# Altium integrated library TI Digital Signal Processor 32-Bit.IntLib: 121 symbols (part 9 of 13)
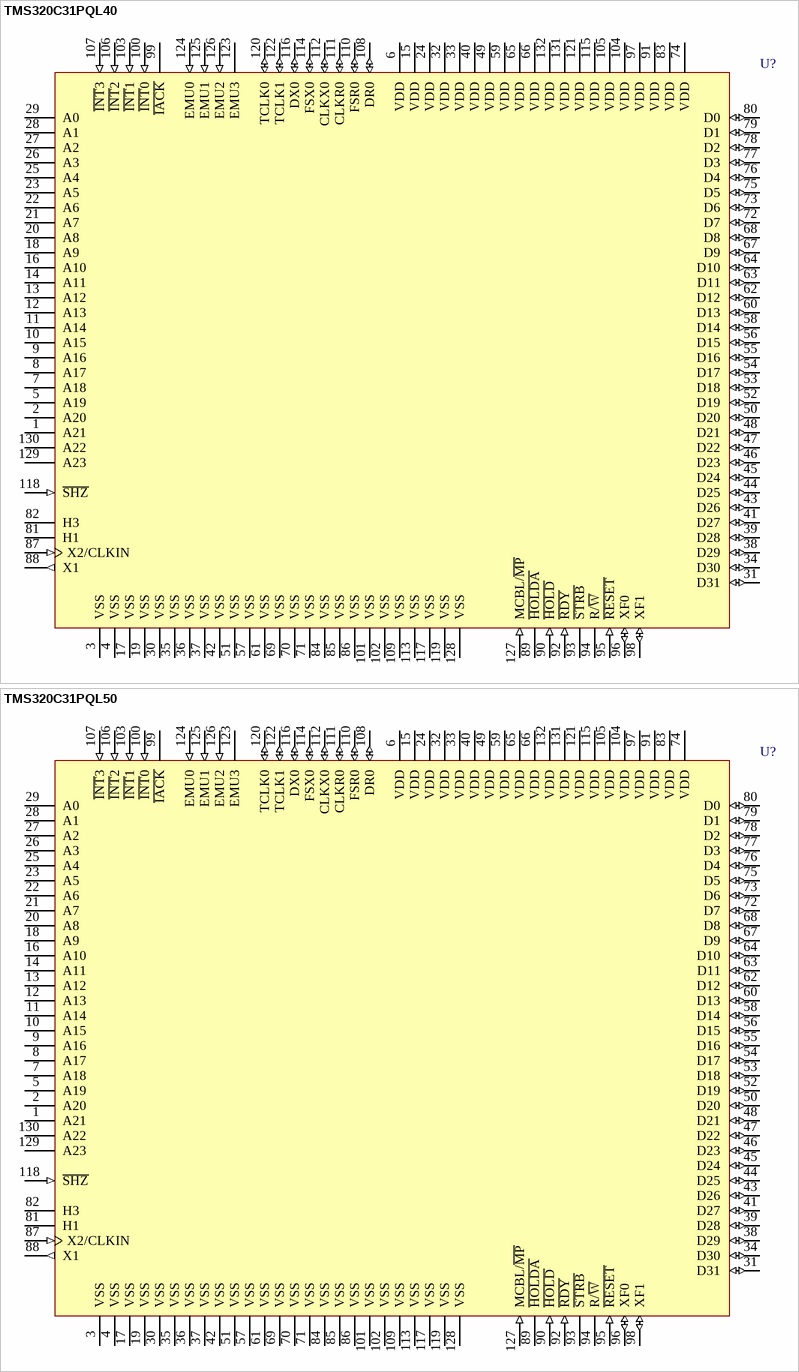
[diagram p138: symbols TMS320C31PQL40 to TMS320C31PQL50]

## TMS320C31PQL40
designator U?
Floating DSP; Published: 25-Jan-2001; LatestRevisionDate: 17-Jul-2002; LatestRevisionNote: Re-released for DXP Platform.; DatasheetVersion: Jan-1999; PackageVersion: Nov-1995; PackageReference: PQ132; Publisher: Altium Limited; PackageDescription: PQFP; 132 Leads; Body 24 x 24 mm; Pitch 0.635 mm; Code_JEDEC: MO-069; ComponentLink1Description: Manufacturer Link; ComponentLink1URL: http://www.ti.com/; ComponentLink2Description: Datasheet; ComponentLink2URL: http://www-s.ti.com/sc/ds/tms320lc31.pdf
footprint PQ132 (PQFP; 132 Leads; Body 24 x 24 mm; Pitch 0.635 mm)
pins: 1 A21 (hiz), 2 A20 (hiz), 3 VSS (power), 4 VSS (power), 5 A19 (hiz), 6 VDD (power), 7 A18 (hiz), 8 A17 (hiz), 9 A16 (hiz), 10 A15 (hiz), 11 A14 (hiz), 12 A13 (hiz), 13 A12 (hiz), 14 A11 (hiz), 15 VDD (power), 16 A10 (hiz), 17 VSS (power), 18 A9 (hiz), 19 VSS (power), 20 A8 (hiz), 21 A7 (hiz), 22 A6 (hiz), 23 A5 (hiz), 24 VDD (power), 25 A4 (hiz), 26 A3 (hiz), 27 A2 (hiz), 28 A1 (hiz), 29 A0 (hiz), 30 VSS (power), 31 D31 (io), 32 VDD (power), 33 VDD (power), 34 D30 (io), 35 VSS (power), 36 VSS (power), 37 VSS (power), 38 D29 (io), 39 D28 (io), 40 VDD (power), 41 D27 (io), 42 VSS (power), 43 D26 (io), 44 D25 (io), 45 D24 (io), 46 D23 (io), 47 D22 (io), 48 D21 (io), 49 VDD (power), 50 D20 (io), 51 VSS (power), 52 D19 (io), 53 D18 (io), 54 D17 (io), 55 D16 (io), 56 D15 (io), 57 VSS (power), 58 D14 (io), 59 VDD (power), 60 D13 (io), 61 VSS (power), 62 D12 (io), 63 D11 (io), 64 D10 (io), 65 VDD (power), 66 VDD (power), 67 D9 (io), 68 D8 (io), 69 VSS (power), 70 VSS (power), 71 VSS (power), 72 D7 (io), 73 D6 (io), 74 VDD (power), 75 D5 (io), 76 D4 (io), 77 D3 (io), 78 D2 (io), 79 D1 (io), 80 D0 (io), 81 H1 (hiz), 82 H3 (hiz), 83 VDD (power), 84 VSS (power), 85 VSS (power), 86 VSS (power), 87 X2/CLKIN (in), 88 X1 (out), 89 ~{HOLDA} (hiz), 90 ~{HOLD} (in), 91 VDD (power), 92 ~{RDY} (in), 93 ~{STRB} (hiz), 94 R/~{W} (hiz), 95 ~{RESET} (in), 96 XF0 (io), 97 VDD (power), 98 XF1 (io), 99 ~{IACK} (hiz), 100 ~{INT}0 (in), 101 VSS (power), 102 VSS (power), 103 ~{INT}1 (in), 104 VDD (power), 105 VDD (power), 106 ~{INT}2 (in), 107 ~{INT}3 (in), 108 DR0 (io), 109 VSS (power), 110 FSR0 (io), 111 CLKR0 (io), 112 CLKX0 (io), 113 VSS (power), 114 FSX0 (io), 115 VDD (power), 116 DX0 (io), 117 VSS (power), 118 ~{SHZ} (in), 119 VSS (power), 120 TCLK0 (io), 121 VDD (power), 122 TCLK1 (io), 123 EMU3 (hiz), 124 EMU0 (in), 125 EMU1 (in), 126 EMU2 (in), 127 MCBL/~{MP} (in), 128 VSS (power), 129 A23 (hiz), 130 A22 (hiz), 131 VDD (power), 132 VDD (power)

## TMS320C31PQL50
designator U?
Floating DSP; Published: 25-Jan-2001; LatestRevisionDate: 17-Jul-2002; LatestRevisionNote: Re-released for DXP Platform.; DatasheetVersion: Jan-1999; PackageVersion: Nov-1995; PackageReference: PQ132; Publisher: Altium Limited; PackageDescription: PQFP; 132 Leads; Body 24 x 24 mm; Pitch 0.635 mm; Code_JEDEC: MO-069; ComponentLink1Description: Manufacturer Link; ComponentLink1URL: http://www.ti.com/; ComponentLink2Description: Datasheet; ComponentLink2URL: http://www-s.ti.com/sc/ds/tms320lc31.pdf
footprint PQ132 (PQFP; 132 Leads; Body 24 x 24 mm; Pitch 0.635 mm)
pins: 1 A21 (hiz), 2 A20 (hiz), 3 VSS (power), 4 VSS (power), 5 A19 (hiz), 6 VDD (power), 7 A18 (hiz), 8 A17 (hiz), 9 A16 (hiz), 10 A15 (hiz), 11 A14 (hiz), 12 A13 (hiz), 13 A12 (hiz), 14 A11 (hiz), 15 VDD (power), 16 A10 (hiz), 17 VSS (power), 18 A9 (hiz), 19 VSS (power), 20 A8 (hiz), 21 A7 (hiz), 22 A6 (hiz), 23 A5 (hiz), 24 VDD (power), 25 A4 (hiz), 26 A3 (hiz), 27 A2 (hiz), 28 A1 (hiz), 29 A0 (hiz), 30 VSS (power), 31 D31 (io), 32 VDD (power), 33 VDD (power), 34 D30 (io), 35 VSS (power), 36 VSS (power), 37 VSS (power), 38 D29 (io), 39 D28 (io), 40 VDD (power), 41 D27 (io), 42 VSS (power), 43 D26 (io), 44 D25 (io), 45 D24 (io), 46 D23 (io), 47 D22 (io), 48 D21 (io), 49 VDD (power), 50 D20 (io), 51 VSS (power), 52 D19 (io), 53 D18 (io), 54 D17 (io), 55 D16 (io), 56 D15 (io), 57 VSS (power), 58 D14 (io), 59 VDD (power), 60 D13 (io), 61 VSS (power), 62 D12 (io), 63 D11 (io), 64 D10 (io), 65 VDD (power), 66 VDD (power), 67 D9 (io), 68 D8 (io), 69 VSS (power), 70 VSS (power), 71 VSS (power), 72 D7 (io), 73 D6 (io), 74 VDD (power), 75 D5 (io), 76 D4 (io), 77 D3 (io), 78 D2 (io), 79 D1 (io), 80 D0 (io), 81 H1 (hiz), 82 H3 (hiz), 83 VDD (power), 84 VSS (power), 85 VSS (power), 86 VSS (power), 87 X2/CLKIN (in), 88 X1 (out), 89 ~{HOLDA} (hiz), 90 ~{HOLD} (in), 91 VDD (power), 92 ~{RDY} (in), 93 ~{STRB} (hiz), 94 R/~{W} (hiz), 95 ~{RESET} (in), 96 XF0 (io), 97 VDD (power), 98 XF1 (io), 99 ~{IACK} (hiz), 100 ~{INT}0 (in), 101 VSS (power), 102 VSS (power), 103 ~{INT}1 (in), 104 VDD (power), 105 VDD (power), 106 ~{INT}2 (in), 107 ~{INT}3 (in), 108 DR0 (io), 109 VSS (power), 110 FSR0 (io), 111 CLKR0 (io), 112 CLKX0 (io), 113 VSS (power), 114 FSX0 (io), 115 VDD (power), 116 DX0 (io), 117 VSS (power), 118 ~{SHZ} (in), 119 VSS (power), 120 TCLK0 (io), 121 VDD (power), 122 TCLK1 (io), 123 EMU3 (hiz), 124 EMU0 (in), 125 EMU1 (in), 126 EMU2 (in), 127 MCBL/~{MP} (in), 128 VSS (power), 129 A23 (hiz), 130 A22 (hiz), 131 VDD (power), 132 VDD (power)

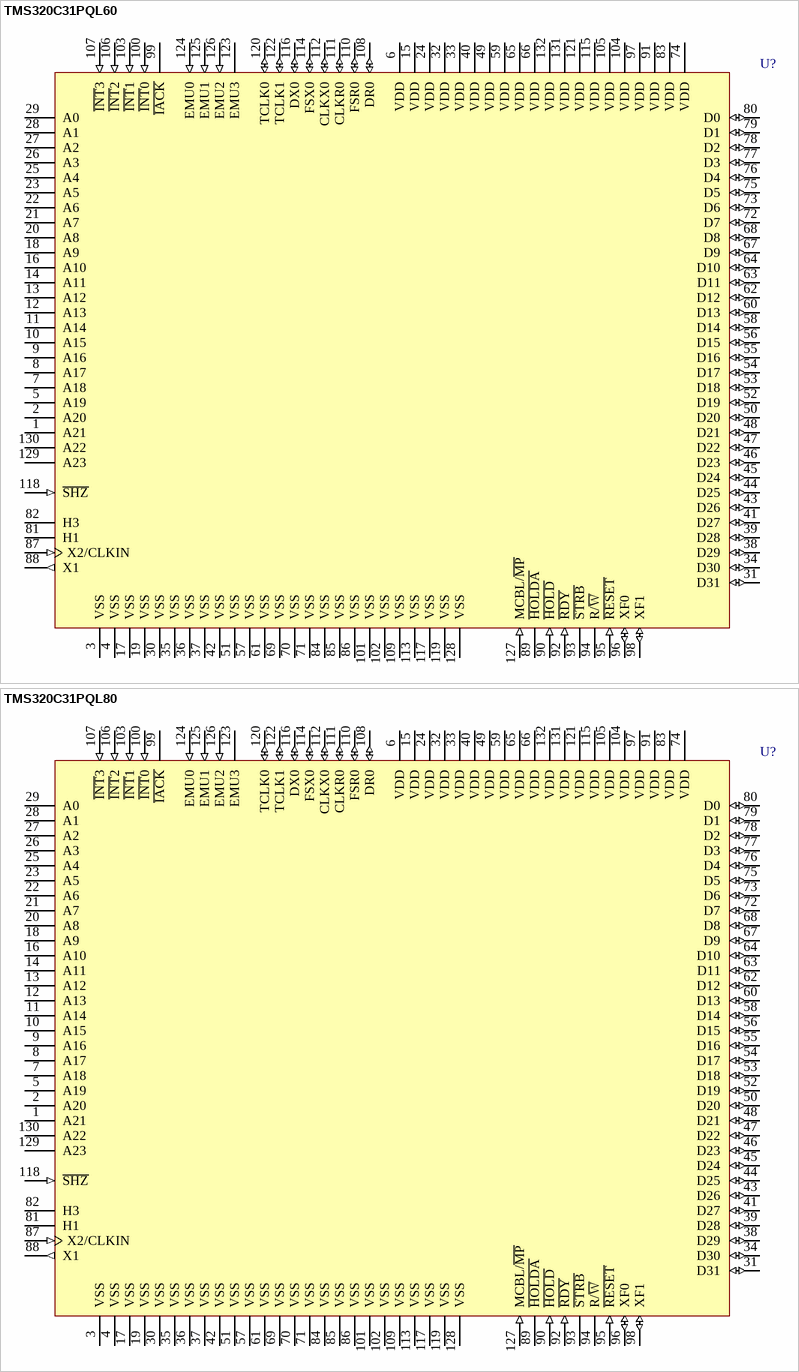
[diagram p95: symbols TMS320C31PQL60 to TMS320C31PQL80]

## TMS320C31PQL60
designator U?
Floating DSP; Published: 25-Jan-2001; LatestRevisionDate: 17-Jul-2002; LatestRevisionNote: Re-released for DXP Platform.; DatasheetVersion: Jan-1999; PackageVersion: Nov-1995; PackageReference: PQ132; Publisher: Altium Limited; PackageDescription: PQFP; 132 Leads; Body 24 x 24 mm; Pitch 0.635 mm; Code_JEDEC: MO-069; ComponentLink1Description: Manufacturer Link; ComponentLink1URL: http://www.ti.com/; ComponentLink2Description: Datasheet; ComponentLink2URL: http://www-s.ti.com/sc/ds/tms320lc31.pdf
footprint PQ132 (PQFP; 132 Leads; Body 24 x 24 mm; Pitch 0.635 mm)
pins: 1 A21 (hiz), 2 A20 (hiz), 3 VSS (power), 4 VSS (power), 5 A19 (hiz), 6 VDD (power), 7 A18 (hiz), 8 A17 (hiz), 9 A16 (hiz), 10 A15 (hiz), 11 A14 (hiz), 12 A13 (hiz), 13 A12 (hiz), 14 A11 (hiz), 15 VDD (power), 16 A10 (hiz), 17 VSS (power), 18 A9 (hiz), 19 VSS (power), 20 A8 (hiz), 21 A7 (hiz), 22 A6 (hiz), 23 A5 (hiz), 24 VDD (power), 25 A4 (hiz), 26 A3 (hiz), 27 A2 (hiz), 28 A1 (hiz), 29 A0 (hiz), 30 VSS (power), 31 D31 (io), 32 VDD (power), 33 VDD (power), 34 D30 (io), 35 VSS (power), 36 VSS (power), 37 VSS (power), 38 D29 (io), 39 D28 (io), 40 VDD (power), 41 D27 (io), 42 VSS (power), 43 D26 (io), 44 D25 (io), 45 D24 (io), 46 D23 (io), 47 D22 (io), 48 D21 (io), 49 VDD (power), 50 D20 (io), 51 VSS (power), 52 D19 (io), 53 D18 (io), 54 D17 (io), 55 D16 (io), 56 D15 (io), 57 VSS (power), 58 D14 (io), 59 VDD (power), 60 D13 (io), 61 VSS (power), 62 D12 (io), 63 D11 (io), 64 D10 (io), 65 VDD (power), 66 VDD (power), 67 D9 (io), 68 D8 (io), 69 VSS (power), 70 VSS (power), 71 VSS (power), 72 D7 (io), 73 D6 (io), 74 VDD (power), 75 D5 (io), 76 D4 (io), 77 D3 (io), 78 D2 (io), 79 D1 (io), 80 D0 (io), 81 H1 (hiz), 82 H3 (hiz), 83 VDD (power), 84 VSS (power), 85 VSS (power), 86 VSS (power), 87 X2/CLKIN (in), 88 X1 (out), 89 ~{HOLDA} (hiz), 90 ~{HOLD} (in), 91 VDD (power), 92 ~{RDY} (in), 93 ~{STRB} (hiz), 94 R/~{W} (hiz), 95 ~{RESET} (in), 96 XF0 (io), 97 VDD (power), 98 XF1 (io), 99 ~{IACK} (hiz), 100 ~{INT}0 (in), 101 VSS (power), 102 VSS (power), 103 ~{INT}1 (in), 104 VDD (power), 105 VDD (power), 106 ~{INT}2 (in), 107 ~{INT}3 (in), 108 DR0 (io), 109 VSS (power), 110 FSR0 (io), 111 CLKR0 (io), 112 CLKX0 (io), 113 VSS (power), 114 FSX0 (io), 115 VDD (power), 116 DX0 (io), 117 VSS (power), 118 ~{SHZ} (in), 119 VSS (power), 120 TCLK0 (io), 121 VDD (power), 122 TCLK1 (io), 123 EMU3 (hiz), 124 EMU0 (in), 125 EMU1 (in), 126 EMU2 (in), 127 MCBL/~{MP} (in), 128 VSS (power), 129 A23 (hiz), 130 A22 (hiz), 131 VDD (power), 132 VDD (power)

## TMS320C31PQL80
designator U?
Floating DSP; Published: 25-Jan-2001; LatestRevisionDate: 17-Jul-2002; LatestRevisionNote: Re-released for DXP Platform.; DatasheetVersion: Jan-1999; PackageVersion: Nov-1995; PackageReference: PQ132; Publisher: Altium Limited; PackageDescription: PQFP; 132 Leads; Body 24 x 24 mm; Pitch 0.635 mm; Code_JEDEC: MO-069; ComponentLink1Description: Manufacturer Link; ComponentLink1URL: http://www.ti.com/; ComponentLink2Description: Datasheet; ComponentLink2URL: http://www-s.ti.com/sc/ds/tms320lc31.pdf
footprint PQ132 (PQFP; 132 Leads; Body 24 x 24 mm; Pitch 0.635 mm)
pins: 1 A21 (hiz), 2 A20 (hiz), 3 VSS (power), 4 VSS (power), 5 A19 (hiz), 6 VDD (power), 7 A18 (hiz), 8 A17 (hiz), 9 A16 (hiz), 10 A15 (hiz), 11 A14 (hiz), 12 A13 (hiz), 13 A12 (hiz), 14 A11 (hiz), 15 VDD (power), 16 A10 (hiz), 17 VSS (power), 18 A9 (hiz), 19 VSS (power), 20 A8 (hiz), 21 A7 (hiz), 22 A6 (hiz), 23 A5 (hiz), 24 VDD (power), 25 A4 (hiz), 26 A3 (hiz), 27 A2 (hiz), 28 A1 (hiz), 29 A0 (hiz), 30 VSS (power), 31 D31 (io), 32 VDD (power), 33 VDD (power), 34 D30 (io), 35 VSS (power), 36 VSS (power), 37 VSS (power), 38 D29 (io), 39 D28 (io), 40 VDD (power), 41 D27 (io), 42 VSS (power), 43 D26 (io), 44 D25 (io), 45 D24 (io), 46 D23 (io), 47 D22 (io), 48 D21 (io), 49 VDD (power), 50 D20 (io), 51 VSS (power), 52 D19 (io), 53 D18 (io), 54 D17 (io), 55 D16 (io), 56 D15 (io), 57 VSS (power), 58 D14 (io), 59 VDD (power), 60 D13 (io), 61 VSS (power), 62 D12 (io), 63 D11 (io), 64 D10 (io), 65 VDD (power), 66 VDD (power), 67 D9 (io), 68 D8 (io), 69 VSS (power), 70 VSS (power), 71 VSS (power), 72 D7 (io), 73 D6 (io), 74 VDD (power), 75 D5 (io), 76 D4 (io), 77 D3 (io), 78 D2 (io), 79 D1 (io), 80 D0 (io), 81 H1 (hiz), 82 H3 (hiz), 83 VDD (power), 84 VSS (power), 85 VSS (power), 86 VSS (power), 87 X2/CLKIN (in), 88 X1 (out), 89 ~{HOLDA} (hiz), 90 ~{HOLD} (in), 91 VDD (power), 92 ~{RDY} (in), 93 ~{STRB} (hiz), 94 R/~{W} (hiz), 95 ~{RESET} (in), 96 XF0 (io), 97 VDD (power), 98 XF1 (io), 99 ~{IACK} (hiz), 100 ~{INT}0 (in), 101 VSS (power), 102 VSS (power), 103 ~{INT}1 (in), 104 VDD (power), 105 VDD (power), 106 ~{INT}2 (in), 107 ~{INT}3 (in), 108 DR0 (io), 109 VSS (power), 110 FSR0 (io), 111 CLKR0 (io), 112 CLKX0 (io), 113 VSS (power), 114 FSX0 (io), 115 VDD (power), 116 DX0 (io), 117 VSS (power), 118 ~{SHZ} (in), 119 VSS (power), 120 TCLK0 (io), 121 VDD (power), 122 TCLK1 (io), 123 EMU3 (hiz), 124 EMU0 (in), 125 EMU1 (in), 126 EMU2 (in), 127 MCBL/~{MP} (in), 128 VSS (power), 129 A23 (hiz), 130 A22 (hiz), 131 VDD (power), 132 VDD (power)

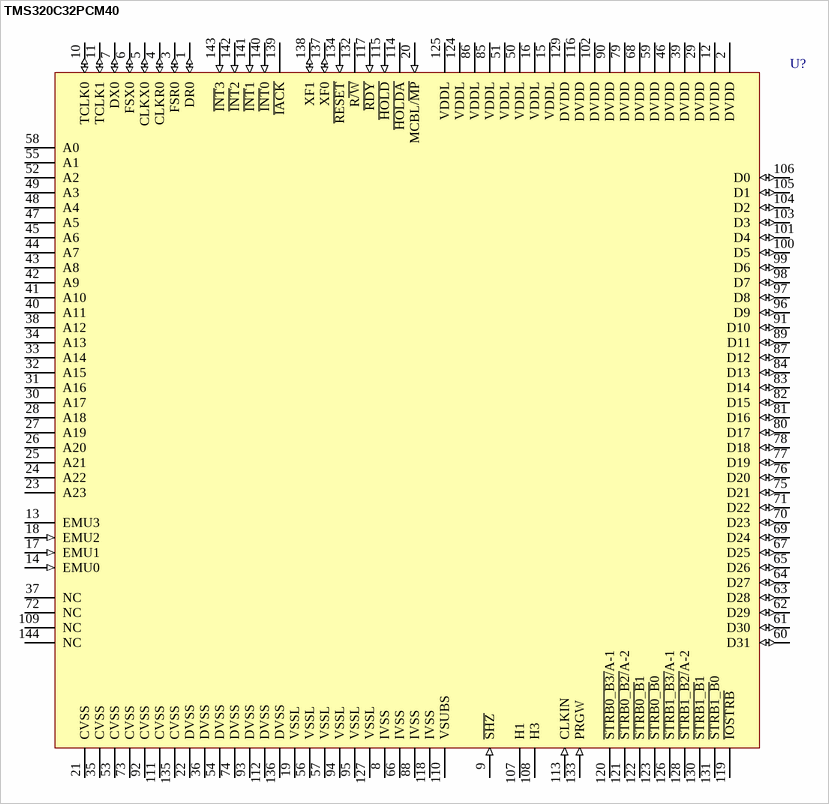
[diagram p96: symbol TMS320C32PCM40]

## TMS320C32PCM40
designator U?
Floating DSP; Published: 25-Jan-2001; LatestRevisionDate: 13-Apr-2006; LatestRevisionNote: IPC-7351 Footprint Added.; DatasheetVersion: Dec-1996; PackageVersion: May-1999; PackageReference: PCM144; Publisher: Altium Limited; PackageDescription: 144-Pin Quad Flat Pack 0.65 mm Pitch; ComponentLink1Description: Manufacturer Link; ComponentLink1URL: http://www.ti.com/; ComponentLink2Description: Datasheet; ComponentLink2URL: http://www-s.ti.com/sc/ds/tms320c32.pdf
footprint PCM144_N (QFP, 144-Leads, Body 28 x 28mm, Pitch 0.65mm, IPC Medium Density)
footprint PCM144_L (QFP, 144-Leads, Body 28 x 28mm, Pitch 0.65mm, IPC High Density)
footprint PCM144_M (QFP, 144-Leads, Body 28 x 28mm, Pitch 0.65mm, IPC Low Density)
3D model TMS320C32-PCM144 (144-Pin Quad Flat Pack 0.65 mm Pitch)
pins: 1 DR0 (io), 2 DVDD (power), 3 FSR0 (io), 4 CLKR0 (io), 5 CLKX0 (io), 6 FSX0 (io), 7 DX0 (io), 8 IVSS (power), 9 ~{SHZ} (in), 10 TCLK0 (io), 11 TCLK1 (io), 12 DVDD (power), 13 EMU3 (hiz), 14 EMU0 (in), 15 VDDL (power), 16 VDDL (power), 17 EMU1 (in), 18 EMU2 (in), 19 VSSL (power), 20 MCBL/~{MP} (in), 21 CVSS (power), 22 DVSS (power), 23 A23 (hiz), 24 A22 (hiz), 25 A21 (hiz), 26 A20 (hiz), 27 A19 (hiz), 28 A18 (hiz), 29 DVDD (power), 30 A17 (hiz), 31 A16 (hiz), 32 A15 (hiz), 33 A14 (hiz), 34 A13 (hiz), 35 CVSS (power), 36 DVSS (power), 37 NC, 38 A12 (hiz), 39 DVDD (power), 40 A11 (hiz), 41 A10 (hiz), 42 A9 (hiz), 43 A8 (hiz), 44 A7 (hiz), 45 A6 (hiz), 46 DVDD (power), 47 A5 (hiz), 48 A4 (hiz), 49 A3 (hiz), 50 VDDL (power), 51 VDDL (power), 52 A2 (hiz), 53 CVSS (power), 54 DVSS (power), 55 A1 (hiz), 56 VSSL (power), 57 VSSL (power), 58 A0 (hiz), 59 DVDD (power), 60 D31 (io), 61 D30 (io), 62 D29 (io), 63 D28 (io), 64 D27 (io), 65 D26 (io), 66 IVSS (power), 67 D25 (io), 68 DVDD (power), 69 D24 (io), 70 D23 (io), 71 D22 (io), 72 NC, 73 CVSS (power), 74 DVSS (power), 75 D21 (io), 76 D20 (io), 77 D19 (io), 78 D18 (io), 79 DVDD (power), 80 D17 (io), 81 D16 (io), 82 D15 (io), 83 D14 (io), 84 D13 (io), 85 VDDL (power), 86 VDDL (power), 87 D12 (io), 88 IVSS (power), 89 D11 (io), 90 DVDD (power), 91 D10 (io), 92 CVSS (power), 93 DVSS (power), 94 VSSL (power), 95 VSSL (power), 96 D9 (io), 97 D8 (io), 98 D7 (io), 99 D6 (io), 100 D5 (io), 101 D4 (io), 102 DVDD (power), 103 D3 (io), 104 D2 (io), 105 D1 (io), 106 D0 (io), 107 H1 (hiz), 108 H3 (hiz), 109 NC, 110 VSUBS (power), 111 CVSS (power), 112 DVSS (power), 113 CLKIN (in), 114 ~{HOLDA} (hiz), 115 ~{HOLD} (in), 116 DVDD (power), 117 ~{RDY} (in), 118 IVSS (power), 119 ~{IOSTRB} (hiz), 120 ~{STRB0_B3/}A-1 (hiz), 121 ~{STRB0_B2/}A-2 (hiz), 122 ~{STRB0_B}1 (hiz), 123 ~{STRB0_B}0 (hiz), 124 VDDL (power), 125 VDDL (power), 126 ~{STRB1_B3/}A-1 (hiz), 127 VSSL (power), 128 ~{STRB1_B2/}A-2 (hiz), 129 DVDD (power), 130 ~{STRB1_B}1 (hiz), 131 ~{STRB1_B}0 (hiz), 132 R~{/W} (hiz), 133 PRGW (in), 134 ~{RESET} (in), 135 CVSS (power), 136 DVSS (power), 137 XF0 (io), 138 XF1 (io), 139 ~{IACK} (hiz), 140 ~{INT}0 (in), 141 ~{INT}1 (in), 142 ~{INT}2 (in), 143 ~{INT}3 (in), 144 NC

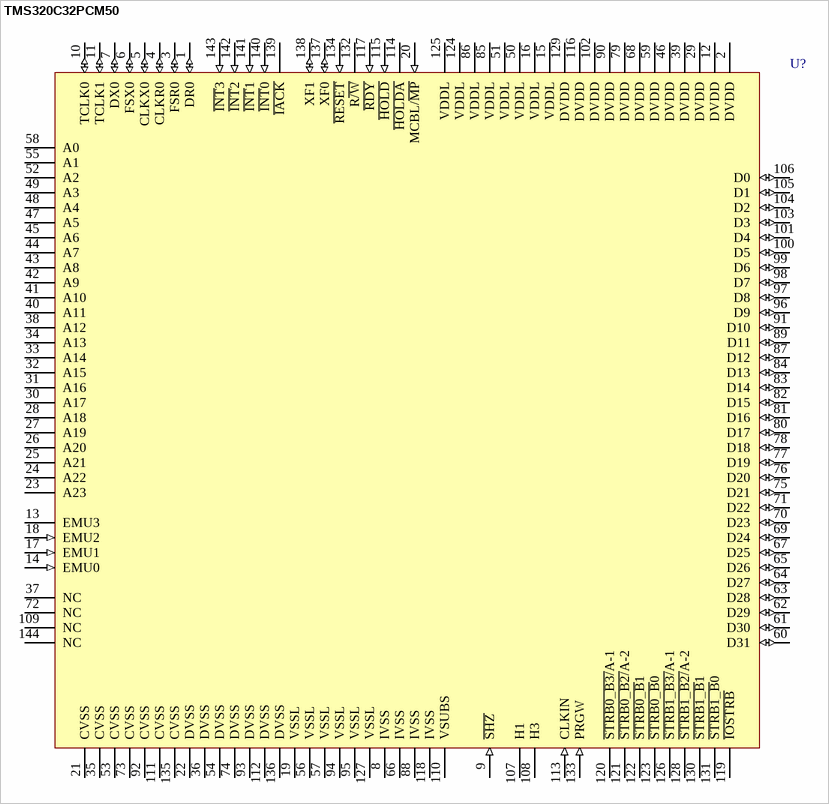
[diagram p97: symbol TMS320C32PCM50]

## TMS320C32PCM50
designator U?
Floating DSP; Published: 25-Jan-2001; LatestRevisionDate: 13-Apr-2006; LatestRevisionNote: IPC-7351 Footprint Added.; DatasheetVersion: Dec-1996; PackageVersion: May-1999; PackageReference: PCM144; Publisher: Altium Limited; PackageDescription: 144-Pin Quad Flat Pack 0.65 mm Pitch; ComponentLink1Description: Manufacturer Link; ComponentLink1URL: http://www.ti.com/; ComponentLink2Description: Datasheet; ComponentLink2URL: http://www-s.ti.com/sc/ds/tms320c32.pdf
footprint PCM144_N (QFP, 144-Leads, Body 28 x 28mm, Pitch 0.65mm, IPC Medium Density)
footprint PCM144_L (QFP, 144-Leads, Body 28 x 28mm, Pitch 0.65mm, IPC High Density)
footprint PCM144_M (QFP, 144-Leads, Body 28 x 28mm, Pitch 0.65mm, IPC Low Density)
3D model TMS320C32-PCM144 (144-Pin Quad Flat Pack 0.65 mm Pitch)
pins: 1 DR0 (io), 2 DVDD (power), 3 FSR0 (io), 4 CLKR0 (io), 5 CLKX0 (io), 6 FSX0 (io), 7 DX0 (io), 8 IVSS (power), 9 ~{SHZ} (in), 10 TCLK0 (io), 11 TCLK1 (io), 12 DVDD (power), 13 EMU3 (hiz), 14 EMU0 (in), 15 VDDL (power), 16 VDDL (power), 17 EMU1 (in), 18 EMU2 (in), 19 VSSL (power), 20 MCBL/~{MP} (in), 21 CVSS (power), 22 DVSS (power), 23 A23 (hiz), 24 A22 (hiz), 25 A21 (hiz), 26 A20 (hiz), 27 A19 (hiz), 28 A18 (hiz), 29 DVDD (power), 30 A17 (hiz), 31 A16 (hiz), 32 A15 (hiz), 33 A14 (hiz), 34 A13 (hiz), 35 CVSS (power), 36 DVSS (power), 37 NC, 38 A12 (hiz), 39 DVDD (power), 40 A11 (hiz), 41 A10 (hiz), 42 A9 (hiz), 43 A8 (hiz), 44 A7 (hiz), 45 A6 (hiz), 46 DVDD (power), 47 A5 (hiz), 48 A4 (hiz), 49 A3 (hiz), 50 VDDL (power), 51 VDDL (power), 52 A2 (hiz), 53 CVSS (power), 54 DVSS (power), 55 A1 (hiz), 56 VSSL (power), 57 VSSL (power), 58 A0 (hiz), 59 DVDD (power), 60 D31 (io), 61 D30 (io), 62 D29 (io), 63 D28 (io), 64 D27 (io), 65 D26 (io), 66 IVSS (power), 67 D25 (io), 68 DVDD (power), 69 D24 (io), 70 D23 (io), 71 D22 (io), 72 NC, 73 CVSS (power), 74 DVSS (power), 75 D21 (io), 76 D20 (io), 77 D19 (io), 78 D18 (io), 79 DVDD (power), 80 D17 (io), 81 D16 (io), 82 D15 (io), 83 D14 (io), 84 D13 (io), 85 VDDL (power), 86 VDDL (power), 87 D12 (io), 88 IVSS (power), 89 D11 (io), 90 DVDD (power), 91 D10 (io), 92 CVSS (power), 93 DVSS (power), 94 VSSL (power), 95 VSSL (power), 96 D9 (io), 97 D8 (io), 98 D7 (io), 99 D6 (io), 100 D5 (io), 101 D4 (io), 102 DVDD (power), 103 D3 (io), 104 D2 (io), 105 D1 (io), 106 D0 (io), 107 H1 (hiz), 108 H3 (hiz), 109 NC, 110 VSUBS (power), 111 CVSS (power), 112 DVSS (power), 113 CLKIN (in), 114 ~{HOLDA} (hiz), 115 ~{HOLD} (in), 116 DVDD (power), 117 ~{RDY} (in), 118 IVSS (power), 119 ~{IOSTRB} (hiz), 120 ~{STRB0_B3/}A-1 (hiz), 121 ~{STRB0_B2/}A-2 (hiz), 122 ~{STRB0_B}1 (hiz), 123 ~{STRB0_B}0 (hiz), 124 VDDL (power), 125 VDDL (power), 126 ~{STRB1_B3/}A-1 (hiz), 127 VSSL (power), 128 ~{STRB1_B2/}A-2 (hiz), 129 DVDD (power), 130 ~{STRB1_B}1 (hiz), 131 ~{STRB1_B}0 (hiz), 132 R~{/W} (hiz), 133 PRGW (in), 134 ~{RESET} (in), 135 CVSS (power), 136 DVSS (power), 137 XF0 (io), 138 XF1 (io), 139 ~{IACK} (hiz), 140 ~{INT}0 (in), 141 ~{INT}1 (in), 142 ~{INT}2 (in), 143 ~{INT}3 (in), 144 NC

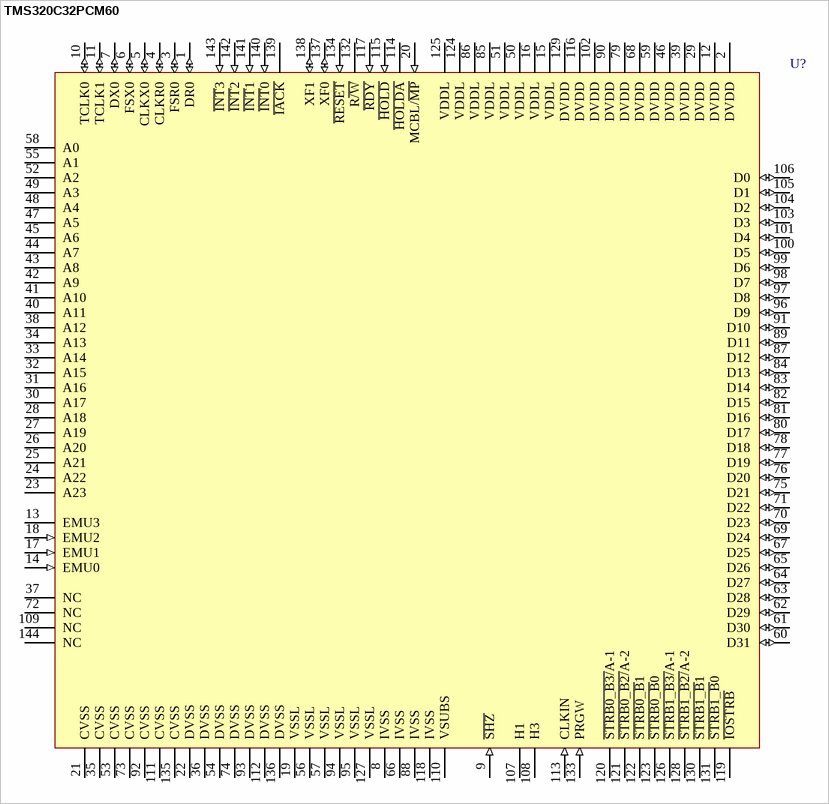
[diagram p98: symbol TMS320C32PCM60]

## TMS320C32PCM60
designator U?
Floating DSP; Published: 25-Jan-2001; LatestRevisionDate: 13-Apr-2006; LatestRevisionNote: IPC-7351 Footprint Added.; DatasheetVersion: Dec-1996; PackageVersion: May-1999; PackageReference: PCM144; Publisher: Altium Limited; PackageDescription: 144-Pin Quad Flat Pack 0.65 mm Pitch; ComponentLink1Description: Manufacturer Link; ComponentLink1URL: http://www.ti.com/; ComponentLink2Description: Datasheet; ComponentLink2URL: http://www-s.ti.com/sc/ds/tms320c32.pdf
footprint PCM144_N (QFP, 144-Leads, Body 28 x 28mm, Pitch 0.65mm, IPC Medium Density)
footprint PCM144_L (QFP, 144-Leads, Body 28 x 28mm, Pitch 0.65mm, IPC High Density)
footprint PCM144_M (QFP, 144-Leads, Body 28 x 28mm, Pitch 0.65mm, IPC Low Density)
3D model TMS320C32-PCM144 (144-Pin Quad Flat Pack 0.65 mm Pitch)
pins: 1 DR0 (io), 2 DVDD (power), 3 FSR0 (io), 4 CLKR0 (io), 5 CLKX0 (io), 6 FSX0 (io), 7 DX0 (io), 8 IVSS (power), 9 ~{SHZ} (in), 10 TCLK0 (io), 11 TCLK1 (io), 12 DVDD (power), 13 EMU3 (hiz), 14 EMU0 (in), 15 VDDL (power), 16 VDDL (power), 17 EMU1 (in), 18 EMU2 (in), 19 VSSL (power), 20 MCBL/~{MP} (in), 21 CVSS (power), 22 DVSS (power), 23 A23 (hiz), 24 A22 (hiz), 25 A21 (hiz), 26 A20 (hiz), 27 A19 (hiz), 28 A18 (hiz), 29 DVDD (power), 30 A17 (hiz), 31 A16 (hiz), 32 A15 (hiz), 33 A14 (hiz), 34 A13 (hiz), 35 CVSS (power), 36 DVSS (power), 37 NC, 38 A12 (hiz), 39 DVDD (power), 40 A11 (hiz), 41 A10 (hiz), 42 A9 (hiz), 43 A8 (hiz), 44 A7 (hiz), 45 A6 (hiz), 46 DVDD (power), 47 A5 (hiz), 48 A4 (hiz), 49 A3 (hiz), 50 VDDL (power), 51 VDDL (power), 52 A2 (hiz), 53 CVSS (power), 54 DVSS (power), 55 A1 (hiz), 56 VSSL (power), 57 VSSL (power), 58 A0 (hiz), 59 DVDD (power), 60 D31 (io), 61 D30 (io), 62 D29 (io), 63 D28 (io), 64 D27 (io), 65 D26 (io), 66 IVSS (power), 67 D25 (io), 68 DVDD (power), 69 D24 (io), 70 D23 (io), 71 D22 (io), 72 NC, 73 CVSS (power), 74 DVSS (power), 75 D21 (io), 76 D20 (io), 77 D19 (io), 78 D18 (io), 79 DVDD (power), 80 D17 (io), 81 D16 (io), 82 D15 (io), 83 D14 (io), 84 D13 (io), 85 VDDL (power), 86 VDDL (power), 87 D12 (io), 88 IVSS (power), 89 D11 (io), 90 DVDD (power), 91 D10 (io), 92 CVSS (power), 93 DVSS (power), 94 VSSL (power), 95 VSSL (power), 96 D9 (io), 97 D8 (io), 98 D7 (io), 99 D6 (io), 100 D5 (io), 101 D4 (io), 102 DVDD (power), 103 D3 (io), 104 D2 (io), 105 D1 (io), 106 D0 (io), 107 H1 (hiz), 108 H3 (hiz), 109 NC, 110 VSUBS (power), 111 CVSS (power), 112 DVSS (power), 113 CLKIN (in), 114 ~{HOLDA} (hiz), 115 ~{HOLD} (in), 116 DVDD (power), 117 ~{RDY} (in), 118 IVSS (power), 119 ~{IOSTRB} (hiz), 120 ~{STRB0_B3/}A-1 (hiz), 121 ~{STRB0_B2/}A-2 (hiz), 122 ~{STRB0_B}1 (hiz), 123 ~{STRB0_B}0 (hiz), 124 VDDL (power), 125 VDDL (power), 126 ~{STRB1_B3/}A-1 (hiz), 127 VSSL (power), 128 ~{STRB1_B2/}A-2 (hiz), 129 DVDD (power), 130 ~{STRB1_B}1 (hiz), 131 ~{STRB1_B}0 (hiz), 132 R~{/W} (hiz), 133 PRGW (in), 134 ~{RESET} (in), 135 CVSS (power), 136 DVSS (power), 137 XF0 (io), 138 XF1 (io), 139 ~{IACK} (hiz), 140 ~{INT}0 (in), 141 ~{INT}1 (in), 142 ~{INT}2 (in), 143 ~{INT}3 (in), 144 NC

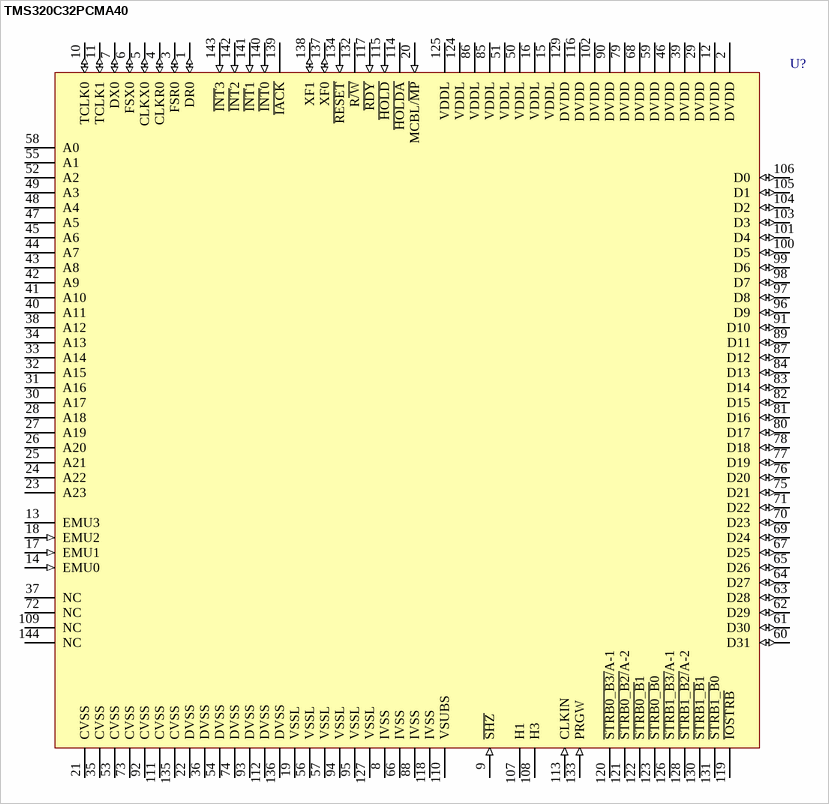
[diagram p99: symbol TMS320C32PCMA40]

## TMS320C32PCMA40
designator U?
Floating DSP; Published: 25-Jan-2001; LatestRevisionDate: 13-Apr-2006; LatestRevisionNote: IPC-7351 Footprint Added.; DatasheetVersion: Dec-1996; PackageVersion: May-1999; PackageReference: PCM144; Publisher: Altium Limited; PackageDescription: 144-Pin Quad Flat Pack 0.65 mm Pitch; ComponentLink1Description: Manufacturer Link; ComponentLink1URL: http://www.ti.com/; ComponentLink2Description: Datasheet; ComponentLink2URL: http://www-s.ti.com/sc/ds/tms320c32.pdf
footprint PCM144_N (QFP, 144-Leads, Body 28 x 28mm, Pitch 0.65mm, IPC Medium Density)
footprint PCM144_L (QFP, 144-Leads, Body 28 x 28mm, Pitch 0.65mm, IPC High Density)
footprint PCM144_M (QFP, 144-Leads, Body 28 x 28mm, Pitch 0.65mm, IPC Low Density)
3D model TMS320C32-PCM144 (144-Pin Quad Flat Pack 0.65 mm Pitch)
pins: 1 DR0 (io), 2 DVDD (power), 3 FSR0 (io), 4 CLKR0 (io), 5 CLKX0 (io), 6 FSX0 (io), 7 DX0 (io), 8 IVSS (power), 9 ~{SHZ} (in), 10 TCLK0 (io), 11 TCLK1 (io), 12 DVDD (power), 13 EMU3 (hiz), 14 EMU0 (in), 15 VDDL (power), 16 VDDL (power), 17 EMU1 (in), 18 EMU2 (in), 19 VSSL (power), 20 MCBL/~{MP} (in), 21 CVSS (power), 22 DVSS (power), 23 A23 (hiz), 24 A22 (hiz), 25 A21 (hiz), 26 A20 (hiz), 27 A19 (hiz), 28 A18 (hiz), 29 DVDD (power), 30 A17 (hiz), 31 A16 (hiz), 32 A15 (hiz), 33 A14 (hiz), 34 A13 (hiz), 35 CVSS (power), 36 DVSS (power), 37 NC, 38 A12 (hiz), 39 DVDD (power), 40 A11 (hiz), 41 A10 (hiz), 42 A9 (hiz), 43 A8 (hiz), 44 A7 (hiz), 45 A6 (hiz), 46 DVDD (power), 47 A5 (hiz), 48 A4 (hiz), 49 A3 (hiz), 50 VDDL (power), 51 VDDL (power), 52 A2 (hiz), 53 CVSS (power), 54 DVSS (power), 55 A1 (hiz), 56 VSSL (power), 57 VSSL (power), 58 A0 (hiz), 59 DVDD (power), 60 D31 (io), 61 D30 (io), 62 D29 (io), 63 D28 (io), 64 D27 (io), 65 D26 (io), 66 IVSS (power), 67 D25 (io), 68 DVDD (power), 69 D24 (io), 70 D23 (io), 71 D22 (io), 72 NC, 73 CVSS (power), 74 DVSS (power), 75 D21 (io), 76 D20 (io), 77 D19 (io), 78 D18 (io), 79 DVDD (power), 80 D17 (io), 81 D16 (io), 82 D15 (io), 83 D14 (io), 84 D13 (io), 85 VDDL (power), 86 VDDL (power), 87 D12 (io), 88 IVSS (power), 89 D11 (io), 90 DVDD (power), 91 D10 (io), 92 CVSS (power), 93 DVSS (power), 94 VSSL (power), 95 VSSL (power), 96 D9 (io), 97 D8 (io), 98 D7 (io), 99 D6 (io), 100 D5 (io), 101 D4 (io), 102 DVDD (power), 103 D3 (io), 104 D2 (io), 105 D1 (io), 106 D0 (io), 107 H1 (hiz), 108 H3 (hiz), 109 NC, 110 VSUBS (power), 111 CVSS (power), 112 DVSS (power), 113 CLKIN (in), 114 ~{HOLDA} (hiz), 115 ~{HOLD} (in), 116 DVDD (power), 117 ~{RDY} (in), 118 IVSS (power), 119 ~{IOSTRB} (hiz), 120 ~{STRB0_B3/}A-1 (hiz), 121 ~{STRB0_B2/}A-2 (hiz), 122 ~{STRB0_B}1 (hiz), 123 ~{STRB0_B}0 (hiz), 124 VDDL (power), 125 VDDL (power), 126 ~{STRB1_B3/}A-1 (hiz), 127 VSSL (power), 128 ~{STRB1_B2/}A-2 (hiz), 129 DVDD (power), 130 ~{STRB1_B}1 (hiz), 131 ~{STRB1_B}0 (hiz), 132 R~{/W} (hiz), 133 PRGW (in), 134 ~{RESET} (in), 135 CVSS (power), 136 DVSS (power), 137 XF0 (io), 138 XF1 (io), 139 ~{IACK} (hiz), 140 ~{INT}0 (in), 141 ~{INT}1 (in), 142 ~{INT}2 (in), 143 ~{INT}3 (in), 144 NC

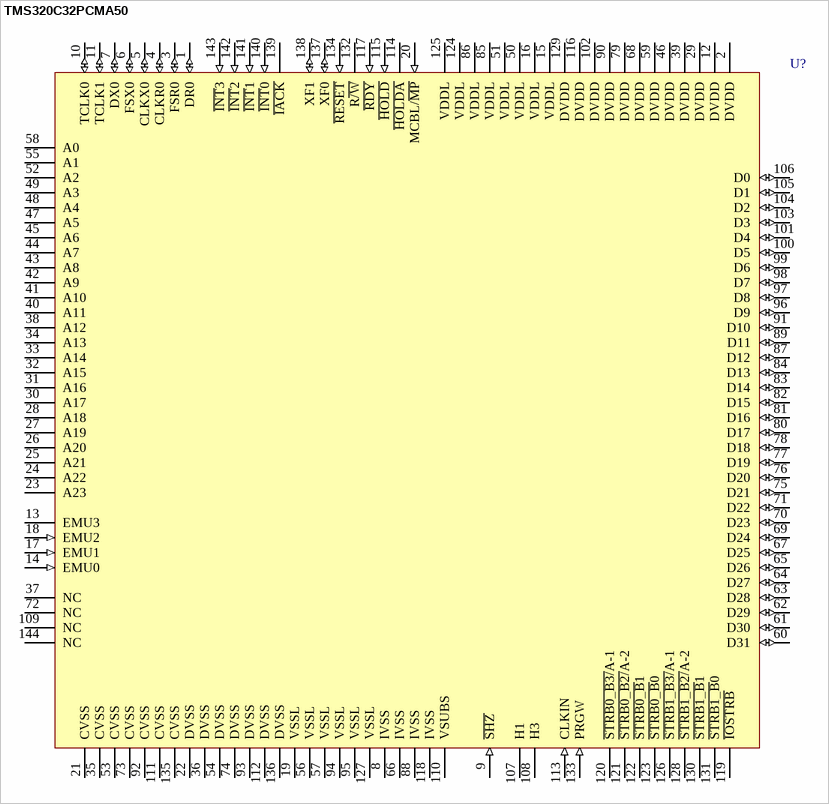
[diagram p100: symbol TMS320C32PCMA50]

## TMS320C32PCMA50
designator U?
Floating DSP; Published: 25-Jan-2001; LatestRevisionDate: 13-Apr-2006; LatestRevisionNote: IPC-7351 Footprint Added.; DatasheetVersion: Dec-1996; PackageVersion: May-1999; PackageReference: PCM144; Publisher: Altium Limited; PackageDescription: 144-Pin Quad Flat Pack 0.65 mm Pitch; ComponentLink1Description: Manufacturer Link; ComponentLink1URL: http://www.ti.com/; ComponentLink2Description: Datasheet; ComponentLink2URL: http://www-s.ti.com/sc/ds/tms320c32.pdf
footprint PCM144_N (QFP, 144-Leads, Body 28 x 28mm, Pitch 0.65mm, IPC Medium Density)
footprint PCM144_L (QFP, 144-Leads, Body 28 x 28mm, Pitch 0.65mm, IPC High Density)
footprint PCM144_M (QFP, 144-Leads, Body 28 x 28mm, Pitch 0.65mm, IPC Low Density)
3D model TMS320C32-PCM144 (144-Pin Quad Flat Pack 0.65 mm Pitch)
pins: 1 DR0 (io), 2 DVDD (power), 3 FSR0 (io), 4 CLKR0 (io), 5 CLKX0 (io), 6 FSX0 (io), 7 DX0 (io), 8 IVSS (power), 9 ~{SHZ} (in), 10 TCLK0 (io), 11 TCLK1 (io), 12 DVDD (power), 13 EMU3 (hiz), 14 EMU0 (in), 15 VDDL (power), 16 VDDL (power), 17 EMU1 (in), 18 EMU2 (in), 19 VSSL (power), 20 MCBL/~{MP} (in), 21 CVSS (power), 22 DVSS (power), 23 A23 (hiz), 24 A22 (hiz), 25 A21 (hiz), 26 A20 (hiz), 27 A19 (hiz), 28 A18 (hiz), 29 DVDD (power), 30 A17 (hiz), 31 A16 (hiz), 32 A15 (hiz), 33 A14 (hiz), 34 A13 (hiz), 35 CVSS (power), 36 DVSS (power), 37 NC, 38 A12 (hiz), 39 DVDD (power), 40 A11 (hiz), 41 A10 (hiz), 42 A9 (hiz), 43 A8 (hiz), 44 A7 (hiz), 45 A6 (hiz), 46 DVDD (power), 47 A5 (hiz), 48 A4 (hiz), 49 A3 (hiz), 50 VDDL (power), 51 VDDL (power), 52 A2 (hiz), 53 CVSS (power), 54 DVSS (power), 55 A1 (hiz), 56 VSSL (power), 57 VSSL (power), 58 A0 (hiz), 59 DVDD (power), 60 D31 (io), 61 D30 (io), 62 D29 (io), 63 D28 (io), 64 D27 (io), 65 D26 (io), 66 IVSS (power), 67 D25 (io), 68 DVDD (power), 69 D24 (io), 70 D23 (io), 71 D22 (io), 72 NC, 73 CVSS (power), 74 DVSS (power), 75 D21 (io), 76 D20 (io), 77 D19 (io), 78 D18 (io), 79 DVDD (power), 80 D17 (io), 81 D16 (io), 82 D15 (io), 83 D14 (io), 84 D13 (io), 85 VDDL (power), 86 VDDL (power), 87 D12 (io), 88 IVSS (power), 89 D11 (io), 90 DVDD (power), 91 D10 (io), 92 CVSS (power), 93 DVSS (power), 94 VSSL (power), 95 VSSL (power), 96 D9 (io), 97 D8 (io), 98 D7 (io), 99 D6 (io), 100 D5 (io), 101 D4 (io), 102 DVDD (power), 103 D3 (io), 104 D2 (io), 105 D1 (io), 106 D0 (io), 107 H1 (hiz), 108 H3 (hiz), 109 NC, 110 VSUBS (power), 111 CVSS (power), 112 DVSS (power), 113 CLKIN (in), 114 ~{HOLDA} (hiz), 115 ~{HOLD} (in), 116 DVDD (power), 117 ~{RDY} (in), 118 IVSS (power), 119 ~{IOSTRB} (hiz), 120 ~{STRB0_B3/}A-1 (hiz), 121 ~{STRB0_B2/}A-2 (hiz), 122 ~{STRB0_B}1 (hiz), 123 ~{STRB0_B}0 (hiz), 124 VDDL (power), 125 VDDL (power), 126 ~{STRB1_B3/}A-1 (hiz), 127 VSSL (power), 128 ~{STRB1_B2/}A-2 (hiz), 129 DVDD (power), 130 ~{STRB1_B}1 (hiz), 131 ~{STRB1_B}0 (hiz), 132 R~{/W} (hiz), 133 PRGW (in), 134 ~{RESET} (in), 135 CVSS (power), 136 DVSS (power), 137 XF0 (io), 138 XF1 (io), 139 ~{IACK} (hiz), 140 ~{INT}0 (in), 141 ~{INT}1 (in), 142 ~{INT}2 (in), 143 ~{INT}3 (in), 144 NC

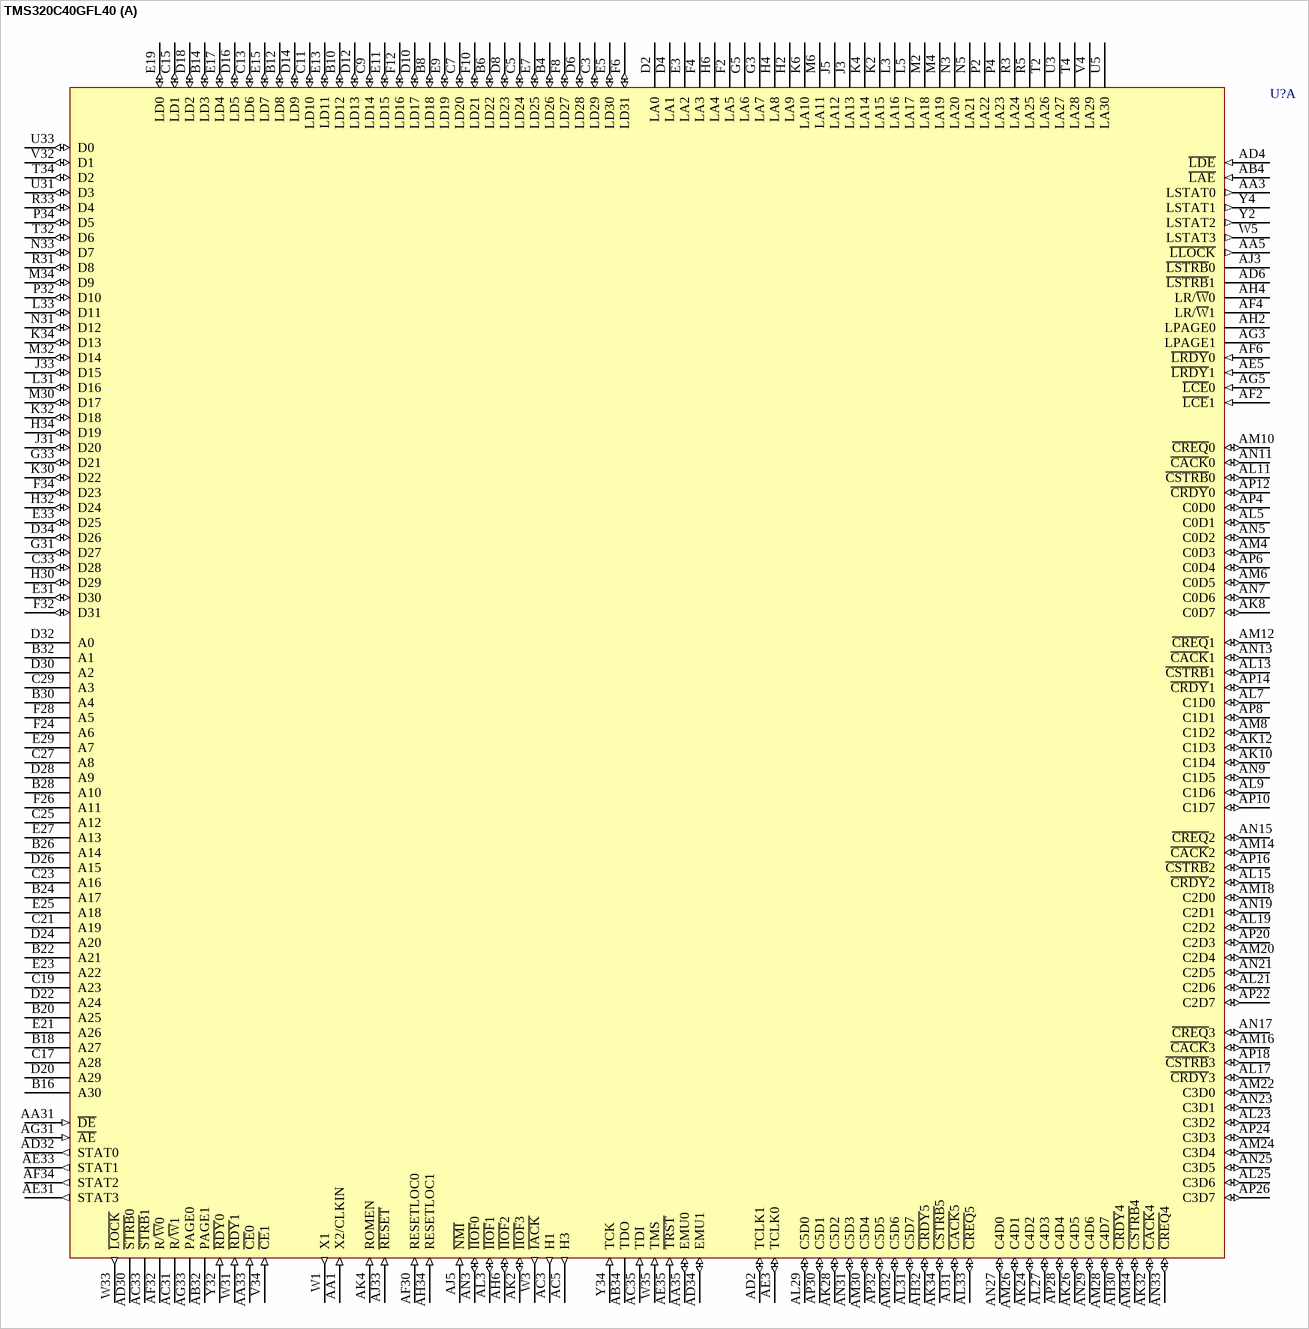
[diagram p101: symbol TMS320C40GFL40]

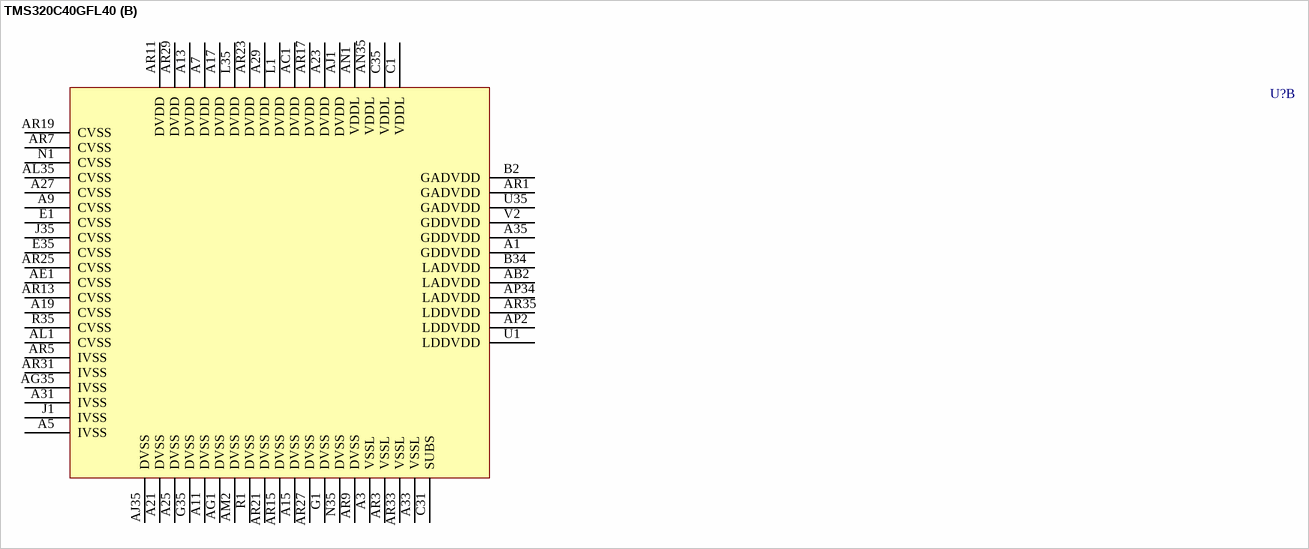
[diagram p102: symbol TMS320C40GFL40]

## TMS320C40GFL40
designator U?
Floating DSP; Published: 25-Jan-2001; LatestRevisionDate: 08-Jul-2005; LatestRevisionNote: Stylized 3D Model Added.; DatasheetVersion: Jan-1996; PackageVersion: Jun-1997; PackageReference: GF325; Publisher: Altium Limited; PackageDescription: 325-Pin Pin Grid Array 2.54 mm Pitch; ComponentLink1Description: Manufacturer Link; ComponentLink1URL: http://www.ti.com/; ComponentLink2Description: Datasheet; ComponentLink2URL: http://www-s.ti.com/sc/ds/tms320c40.pdf
footprint GF325 (PGA, 325-Leads, Body 47x47mm, Pitch 2.54mm)
3D model TMS320C40-GF325 (325-Pin Pin Grid Array 2.54 mm Pitch)
part A pins: AA1 X2/CLKIN (in), AA3 LSTAT0 (out), AA5 ~{LLOCK} (out), AA31 ~{DE} (in), AA33 ~{CE}0 (in), AA35 EMU0 (io), AB4 ~{LAE} (in), AB32 PAGE1 (hiz), AB34 TDO (hiz), AC3 H1 (out), AC5 H3 (out), AC31 R/~{W}1 (hiz), AC33 ~{STRB}1 (hiz), AC35 TDI (in), AD2 TCLK1 (io), AD4 ~{LDE} (in), AD6 ~{LSTRB}1 (hiz), AD30 ~{STRB}0 (hiz), AD32 STAT0 (out), AD34 EMU1 (io), AE3 TCLK0 (io), AE5 ~{LRDY}1 (in), AE31 STAT3 (out), AE33 STAT1 (out), AE35 ~{TRST} (in), AF2 ~{LCE}1 (in), AF4 LR/~{W}1 (hiz), AF6 ~{LRDY}0 (in), AF30 RESETLOC0 (in), AF32 R/~{W}0 (hiz), AF34 STAT2 (out), AG3 LPAGE1 (hiz), AG5 ~{LCE}0 (in), AG31 ~{AE} (in), AG33 PAGE0 (hiz), AH2 LPAGE0 (hiz), AH4 LR/~{W}0 (hiz), AH6 ~{IIOF}2 (io), AH30 ~{CRDY}4 (io), AH32 ~{CRDY}5 (io), AH34 RESETLOC1 (in), AJ3 ~{LSTRB}0 (hiz), AJ5 ~{NMI} (in), AJ31 ~{CACK}5 (io), AJ33 ~{RESET} (in), AK2 ~{IIOF}3 (io), AK4 ROMEN (in), AK8 C0D7 (io), AK10 C1D4 (io), AK12 C1D3 (io), AK24 C4D2 (io), AK26 C4D5 (io), AK28 C5D2 (io), AK32 ~{CACK}4 (io), AK34 ~{CSTRB}5 (io), AL3 ~{IIOF}1 (io), AL5 C0D1 (io), AL7 C1D0 (io), AL9 C1D6 (io), AL11 ~{CSTRB}0 (io), AL13 ~{CSTRB}1 (io), AL15 ~{CRDY}2 (io), AL17 ~{CRDY}3 (io), AL19 C2D2 (io), AL21 C2D6 (io), AL23 C3D2 (io), AL25 C3D6 (io), AL27 C4D3 (io), AL29 C5D0 (io), AL31 C5D7 (io), AL33 ~{CREQ}5 (io), AM4 C0D3 (io), AM6 C0D5 (io), AM8 C1D2 (io), AM10 ~{CREQ}0 (io), AM12 ~{CREQ}1 (io), AM14 ~{CACK}2 (io), AM16 ~{CACK}3 (io), AM18 C2D0 (io), AM20 C2D4 (io), AM22 C3D0 (io), AM24 C3D4 (io), AM26 C4D1 (io), AM28 C4D7 (io), AM30 C5D4 (io), AM32 C5D6 (io), AM34 ~{CSTRB}4 (io), AN3 ~{IIOF}0 (io), AN5 C0D2 (io), AN7 C0D6 (io), AN9 C1D5 (io), AN11 ~{CACK}0 (io), AN13 ~{CACK}1 (io), AN15 ~{CREQ}2 (io), AN17 ~{CREQ}3 (io), AN19 C2D1 (io), AN21 C2D5 (io), AN23 C3D1 (io), AN25 C3D5 (io), AN27 C4D0 (io), AN29 C4D6 (io), AN31 C5D3 (io), AN33 ~{CREQ}4 (io), AP4 C0D0 (io), AP6 C0D4 (io), AP8 C1D1 (io), AP10 C1D7 (io), AP12 ~{CRDY}0 (io), AP14 ~{CRDY}1 (io), AP16 ~{CSTRB}2 (io), AP18 ~{CSTRB}3 (io), AP20 C2D3 (io), AP22 C2D7 (io), AP24 C3D3 (io), AP26 C3D7 (io), AP28 C4D4 (io), AP30 C5D1 (io), AP32 C5D5 (io), B4 LD26 (io), B6 LD22 (io), B8 LD18 (io), B10 LD12 (io), B12 LD8 (io), B14 LD3 (io), B16 A30 (hiz), B18 A27 (hiz), B20 A25 (hiz), B22 A21 (hiz), B24 A17 (hiz), B26 A14 (hiz), B28 A10 (hiz), B30 A4 (hiz), B32 A1 (hiz), C3 LD29 (io), C5 LD24 (io), C7 LD20 (io), C9 LD14 (io), C11 LD10 (io), C13 LD6 (io), C15 LD1 (io), C17 A28 (hiz), C19 A23 (hiz), C21 A19 (hiz), C23 A16 (hiz), C25 A12 (hiz), C27 A8 (hiz), C29 A3 (hiz), C33 D28 (io), D2 LA0 (hiz), D4 LA1 (hiz), D6 LD28 (io), D8 LD23 (io), D10 LD17 (io), D12 LD13 (io), D14 LD9 (io), D16 LD5 (io), D18 LD2 (io), D20 A29 (hiz), D22 A24 (hiz), D24 A20 (hiz), D26 A15 (hiz), D28 A9 (hiz), D30 A2 (hiz), D32 A0 (hiz), D34 D26 (io), E3 LA2 (hiz), E5 LD30 (io), E7 LD25 (io), E9 LD19 (io), E11 LD15 (io), E13 LD11 (io), E15 LD7 (io), E17 LD4 (io), E19 LD0 (io), E21 A26 (hiz), E23 A22 (hiz), E25 A18 (hiz), E27 A13 (hiz), E29 A7 (hiz), E31 D30 (io), E33 D25 (io), F2 LA5 (hiz), F4 LA3 (hiz), F6 LD31 (io), F8 LD27 (io), F10 LD21 (io), F12 LD16 (io), F24 A6 (hiz), F26 A11 (hiz), F28 A5 (hiz), F32 D31 (io), F34 D23 (io), G3 LA7 (hiz), G5 LA6 (hiz), G31 D27 (io), G33 D21 (io), H2 LA9 (hiz), H4 LA8 (hiz), H6 LA4 (hiz), H30 D29 (io), H32 D24 (io), H34 D19 (io), J3 LA13 (hiz), J5 LA12 (hiz), J31 D20 (io), J33 D15 (io), K2 LA15 (hiz), K4 LA14 (hiz), K6 LA10 (hiz), K30 D22 (io), K32 D18 (io), K34 D13 (io), L3 LA16 (hiz), L5 LA17 (hiz), L31 D16 (io), L33 D11 (io), M2 LA18 (hiz), M4 LA19 (hiz), M6 LA11 (hiz), M30 D17 (io), M32 D14 (io), M34 D9 (io), N3 LA20 (hiz), N5 LA21 (hiz), N31 D12 (io), N33 D7 (io), P2 LA22 (hiz), P4 LA23 (hiz), P32 D10 (io), P34 D5 (io), R3 LA24 (hiz), R5 LA25 (hiz), R31 D8 (io), R33 D4 (io), T2 LA26 (hiz), T4 LA28 (hiz), T32 D6 (io), T34 D2 (io), U3 LA27 (hiz), U5 LA30 (hiz), U31 D3 (io), U33 D0 (io), V4 LA29 (hiz), V32 D1 (io), V34 ~{CE}1 (in), W1 X1 (out), W3 ~{IACK} (out), W5 LSTAT3 (out), W31 ~{RDY}1 (in), W33 ~{LOCK} (out), W35 TMS (in), Y2 LSTAT2 (out), Y4 LSTAT1 (out), Y32 ~{RDY}0 (in), Y34 TCK (in)
part B pins: A1 GDDVDD (power), A3 VSSL (power), A5 IVSS (power), A7 DVDD (power), A9 CVSS (power), A11 DVSS (power), A13 DVDD (power), A15 DVSS (power), A17 DVDD (power), A19 CVSS (power), A21 DVSS (power), A23 DVDD (power), A25 DVSS (power), A27 CVSS (power), A29 DVDD (power), A31 IVSS (power), A33 VSSL (power), A35 GDDVDD (power), AB2 LADVDD (power), AC1 DVDD (power), AE1 CVSS (power), AG1 DVSS (power), AG35 IVSS (power), AJ1 DVDD (power), AJ35 DVSS (power), AL1 CVSS (power), AL35 CVSS (power), AM2 DVSS (power), AN1 VDDL (power), AN35 VDDL (power), AP2 LDDVDD (power), AP34 LADVDD (power), AR1 GADVDD (power), AR3 VSSL (power), AR5 IVSS (power), AR7 CVSS (power), AR9 DVSS (power), AR11 DVDD (power), AR13 CVSS (power), AR15 DVSS (power), AR17 DVDD (power), AR19 CVSS (power), AR21 DVSS (power), AR23 DVDD (power), AR25 CVSS (power), AR27 DVSS (power), AR29 DVDD (power), AR31 IVSS (power), AR33 VSSL (power), AR35 LDDVDD (power), B2 GADVDD (power), B34 LADVDD (power), C1 VDDL (power), C31 SUBS (power), C35 VDDL (power), E1 CVSS (power), E35 CVSS (power), G1 DVSS (power), G35 DVSS (power), J1 IVSS (power), J35 CVSS (power), L1 DVDD (power), L35 DVDD (power), N1 CVSS (power), N35 DVSS (power), R1 DVSS (power), R35 CVSS (power), U1 LDDVDD (power), U35 GADVDD (power), V2 GDDVDD (power)

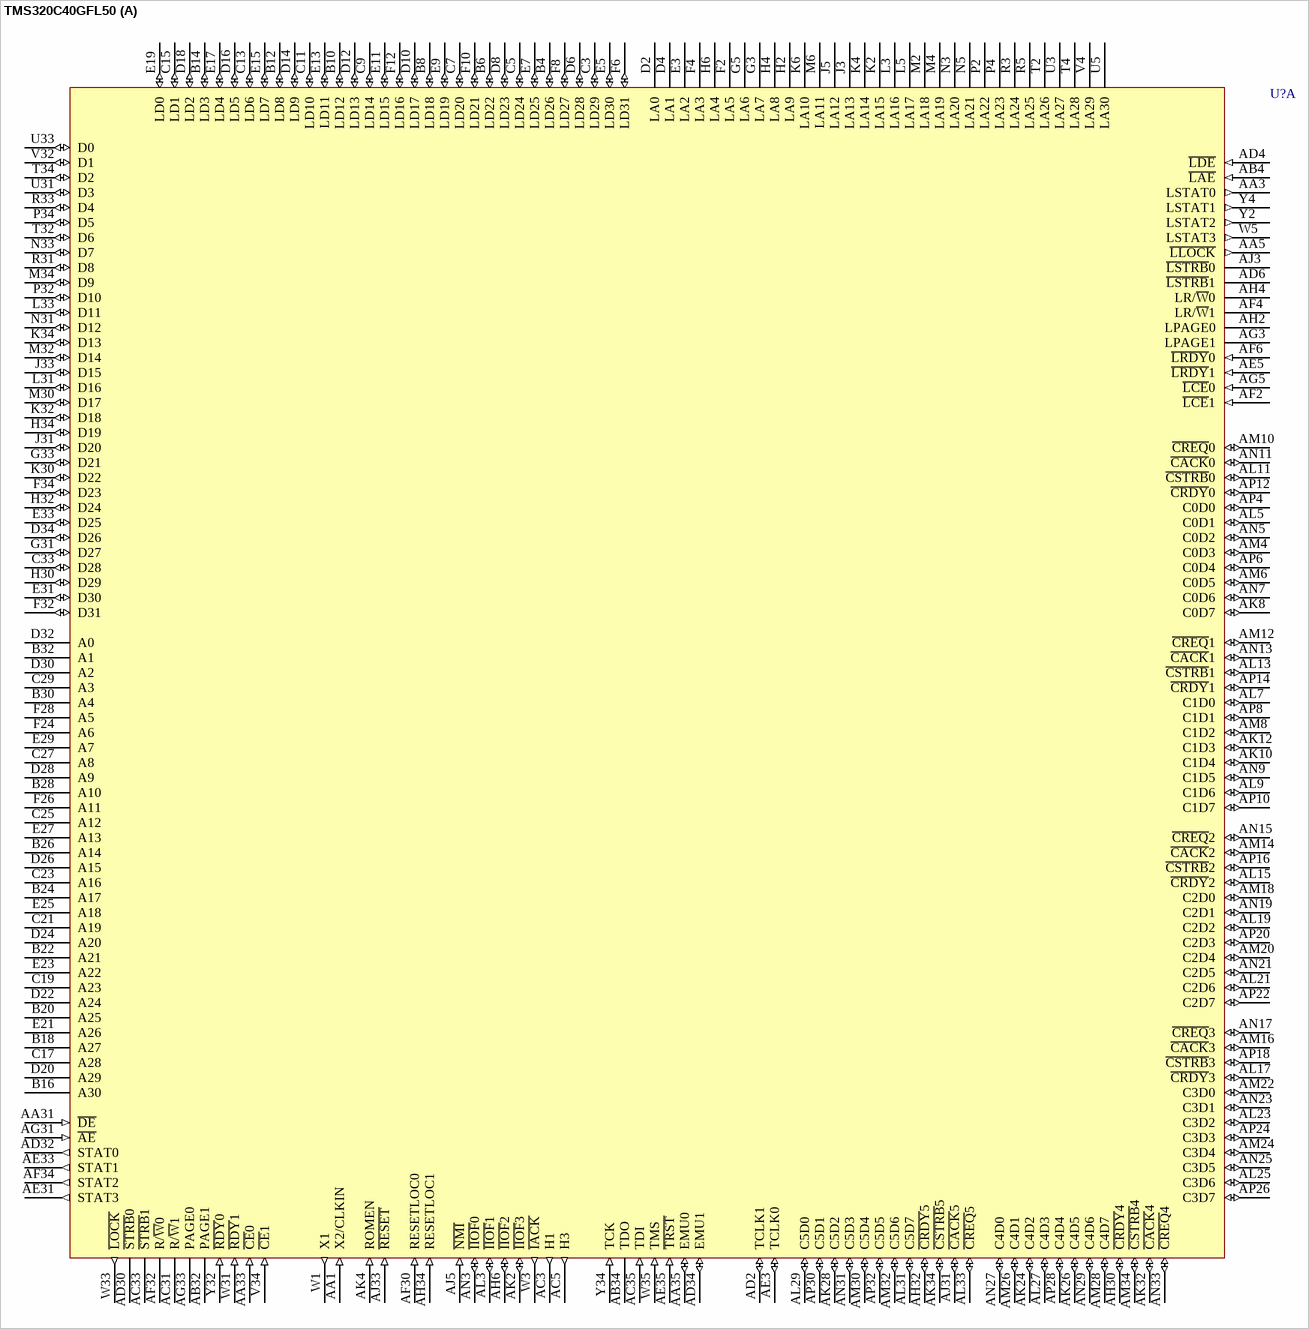
[diagram p103: symbol TMS320C40GFL50]

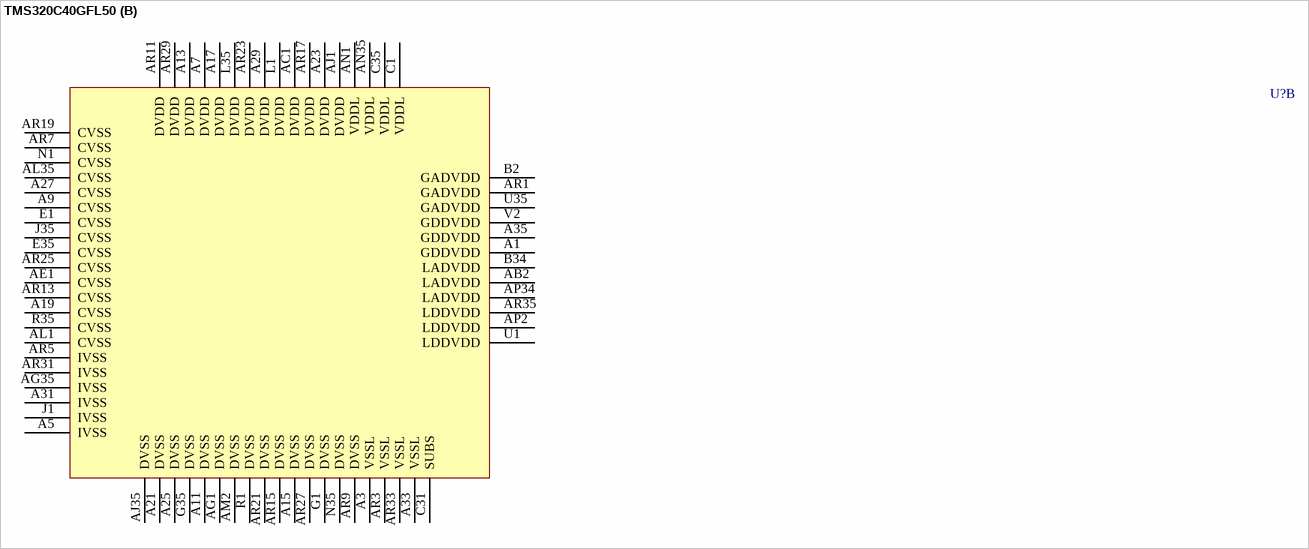
[diagram p104: symbol TMS320C40GFL50]

## TMS320C40GFL50
designator U?
Floating DSP; Published: 25-Jan-2001; LatestRevisionDate: 08-Jul-2005; LatestRevisionNote: Stylized 3D Model Added.; DatasheetVersion: Jan-1996; PackageVersion: Jun-1997; PackageReference: GF325; Publisher: Altium Limited; PackageDescription: 325-Pin Pin Grid Array 2.54 mm Pitch; ComponentLink1Description: Manufacturer Link; ComponentLink1URL: http://www.ti.com/; ComponentLink2Description: Datasheet; ComponentLink2URL: http://www-s.ti.com/sc/ds/tms320c40.pdf
footprint GF325 (PGA, 325-Leads, Body 47x47mm, Pitch 2.54mm)
3D model TMS320C40-GF325 (325-Pin Pin Grid Array 2.54 mm Pitch)
part A pins: AA1 X2/CLKIN (in), AA3 LSTAT0 (out), AA5 ~{LLOCK} (out), AA31 ~{DE} (in), AA33 ~{CE}0 (in), AA35 EMU0 (io), AB4 ~{LAE} (in), AB32 PAGE1 (hiz), AB34 TDO (hiz), AC3 H1 (out), AC5 H3 (out), AC31 R/~{W}1 (hiz), AC33 ~{STRB}1 (hiz), AC35 TDI (in), AD2 TCLK1 (io), AD4 ~{LDE} (in), AD6 ~{LSTRB}1 (hiz), AD30 ~{STRB}0 (hiz), AD32 STAT0 (out), AD34 EMU1 (io), AE3 TCLK0 (io), AE5 ~{LRDY}1 (in), AE31 STAT3 (out), AE33 STAT1 (out), AE35 ~{TRST} (in), AF2 ~{LCE}1 (in), AF4 LR/~{W}1 (hiz), AF6 ~{LRDY}0 (in), AF30 RESETLOC0 (in), AF32 R/~{W}0 (hiz), AF34 STAT2 (out), AG3 LPAGE1 (hiz), AG5 ~{LCE}0 (in), AG31 ~{AE} (in), AG33 PAGE0 (hiz), AH2 LPAGE0 (hiz), AH4 LR/~{W}0 (hiz), AH6 ~{IIOF}2 (io), AH30 ~{CRDY}4 (io), AH32 ~{CRDY}5 (io), AH34 RESETLOC1 (in), AJ3 ~{LSTRB}0 (hiz), AJ5 ~{NMI} (in), AJ31 ~{CACK}5 (io), AJ33 ~{RESET} (in), AK2 ~{IIOF}3 (io), AK4 ROMEN (in), AK8 C0D7 (io), AK10 C1D4 (io), AK12 C1D3 (io), AK24 C4D2 (io), AK26 C4D5 (io), AK28 C5D2 (io), AK32 ~{CACK}4 (io), AK34 ~{CSTRB}5 (io), AL3 ~{IIOF}1 (io), AL5 C0D1 (io), AL7 C1D0 (io), AL9 C1D6 (io), AL11 ~{CSTRB}0 (io), AL13 ~{CSTRB}1 (io), AL15 ~{CRDY}2 (io), AL17 ~{CRDY}3 (io), AL19 C2D2 (io), AL21 C2D6 (io), AL23 C3D2 (io), AL25 C3D6 (io), AL27 C4D3 (io), AL29 C5D0 (io), AL31 C5D7 (io), AL33 ~{CREQ}5 (io), AM4 C0D3 (io), AM6 C0D5 (io), AM8 C1D2 (io), AM10 ~{CREQ}0 (io), AM12 ~{CREQ}1 (io), AM14 ~{CACK}2 (io), AM16 ~{CACK}3 (io), AM18 C2D0 (io), AM20 C2D4 (io), AM22 C3D0 (io), AM24 C3D4 (io), AM26 C4D1 (io), AM28 C4D7 (io), AM30 C5D4 (io), AM32 C5D6 (io), AM34 ~{CSTRB}4 (io), AN3 ~{IIOF}0 (io), AN5 C0D2 (io), AN7 C0D6 (io), AN9 C1D5 (io), AN11 ~{CACK}0 (io), AN13 ~{CACK}1 (io), AN15 ~{CREQ}2 (io), AN17 ~{CREQ}3 (io), AN19 C2D1 (io), AN21 C2D5 (io), AN23 C3D1 (io), AN25 C3D5 (io), AN27 C4D0 (io), AN29 C4D6 (io), AN31 C5D3 (io), AN33 ~{CREQ}4 (io), AP4 C0D0 (io), AP6 C0D4 (io), AP8 C1D1 (io), AP10 C1D7 (io), AP12 ~{CRDY}0 (io), AP14 ~{CRDY}1 (io), AP16 ~{CSTRB}2 (io), AP18 ~{CSTRB}3 (io), AP20 C2D3 (io), AP22 C2D7 (io), AP24 C3D3 (io), AP26 C3D7 (io), AP28 C4D4 (io), AP30 C5D1 (io), AP32 C5D5 (io), B4 LD26 (io), B6 LD22 (io), B8 LD18 (io), B10 LD12 (io), B12 LD8 (io), B14 LD3 (io), B16 A30 (hiz), B18 A27 (hiz), B20 A25 (hiz), B22 A21 (hiz), B24 A17 (hiz), B26 A14 (hiz), B28 A10 (hiz), B30 A4 (hiz), B32 A1 (hiz), C3 LD29 (io), C5 LD24 (io), C7 LD20 (io), C9 LD14 (io), C11 LD10 (io), C13 LD6 (io), C15 LD1 (io), C17 A28 (hiz), C19 A23 (hiz), C21 A19 (hiz), C23 A16 (hiz), C25 A12 (hiz), C27 A8 (hiz), C29 A3 (hiz), C33 D28 (io), D2 LA0 (hiz), D4 LA1 (hiz), D6 LD28 (io), D8 LD23 (io), D10 LD17 (io), D12 LD13 (io), D14 LD9 (io), D16 LD5 (io), D18 LD2 (io), D20 A29 (hiz), D22 A24 (hiz), D24 A20 (hiz), D26 A15 (hiz), D28 A9 (hiz), D30 A2 (hiz), D32 A0 (hiz), D34 D26 (io), E3 LA2 (hiz), E5 LD30 (io), E7 LD25 (io), E9 LD19 (io), E11 LD15 (io), E13 LD11 (io), E15 LD7 (io), E17 LD4 (io), E19 LD0 (io), E21 A26 (hiz), E23 A22 (hiz), E25 A18 (hiz), E27 A13 (hiz), E29 A7 (hiz), E31 D30 (io), E33 D25 (io), F2 LA5 (hiz), F4 LA3 (hiz), F6 LD31 (io), F8 LD27 (io), F10 LD21 (io), F12 LD16 (io), F24 A6 (hiz), F26 A11 (hiz), F28 A5 (hiz), F32 D31 (io), F34 D23 (io), G3 LA7 (hiz), G5 LA6 (hiz), G31 D27 (io), G33 D21 (io), H2 LA9 (hiz), H4 LA8 (hiz), H6 LA4 (hiz), H30 D29 (io), H32 D24 (io), H34 D19 (io), J3 LA13 (hiz), J5 LA12 (hiz), J31 D20 (io), J33 D15 (io), K2 LA15 (hiz), K4 LA14 (hiz), K6 LA10 (hiz), K30 D22 (io), K32 D18 (io), K34 D13 (io), L3 LA16 (hiz), L5 LA17 (hiz), L31 D16 (io), L33 D11 (io), M2 LA18 (hiz), M4 LA19 (hiz), M6 LA11 (hiz), M30 D17 (io), M32 D14 (io), M34 D9 (io), N3 LA20 (hiz), N5 LA21 (hiz), N31 D12 (io), N33 D7 (io), P2 LA22 (hiz), P4 LA23 (hiz), P32 D10 (io), P34 D5 (io), R3 LA24 (hiz), R5 LA25 (hiz), R31 D8 (io), R33 D4 (io), T2 LA26 (hiz), T4 LA28 (hiz), T32 D6 (io), T34 D2 (io), U3 LA27 (hiz), U5 LA30 (hiz), U31 D3 (io), U33 D0 (io), V4 LA29 (hiz), V32 D1 (io), V34 ~{CE}1 (in), W1 X1 (out), W3 ~{IACK} (out), W5 LSTAT3 (out), W31 ~{RDY}1 (in), W33 ~{LOCK} (out), W35 TMS (in), Y2 LSTAT2 (out), Y4 LSTAT1 (out), Y32 ~{RDY}0 (in), Y34 TCK (in)
part B pins: A1 GDDVDD (power), A3 VSSL (power), A5 IVSS (power), A7 DVDD (power), A9 CVSS (power), A11 DVSS (power), A13 DVDD (power), A15 DVSS (power), A17 DVDD (power), A19 CVSS (power), A21 DVSS (power), A23 DVDD (power), A25 DVSS (power), A27 CVSS (power), A29 DVDD (power), A31 IVSS (power), A33 VSSL (power), A35 GDDVDD (power), AB2 LADVDD (power), AC1 DVDD (power), AE1 CVSS (power), AG1 DVSS (power), AG35 IVSS (power), AJ1 DVDD (power), AJ35 DVSS (power), AL1 CVSS (power), AL35 CVSS (power), AM2 DVSS (power), AN1 VDDL (power), AN35 VDDL (power), AP2 LDDVDD (power), AP34 LADVDD (power), AR1 GADVDD (power), AR3 VSSL (power), AR5 IVSS (power), AR7 CVSS (power), AR9 DVSS (power), AR11 DVDD (power), AR13 CVSS (power), AR15 DVSS (power), AR17 DVDD (power), AR19 CVSS (power), AR21 DVSS (power), AR23 DVDD (power), AR25 CVSS (power), AR27 DVSS (power), AR29 DVDD (power), AR31 IVSS (power), AR33 VSSL (power), AR35 LDDVDD (power), B2 GADVDD (power), B34 LADVDD (power), C1 VDDL (power), C31 SUBS (power), C35 VDDL (power), E1 CVSS (power), E35 CVSS (power), G1 DVSS (power), G35 DVSS (power), J1 IVSS (power), J35 CVSS (power), L1 DVDD (power), L35 DVDD (power), N1 CVSS (power), N35 DVSS (power), R1 DVSS (power), R35 CVSS (power), U1 LDDVDD (power), U35 GADVDD (power), V2 GDDVDD (power)

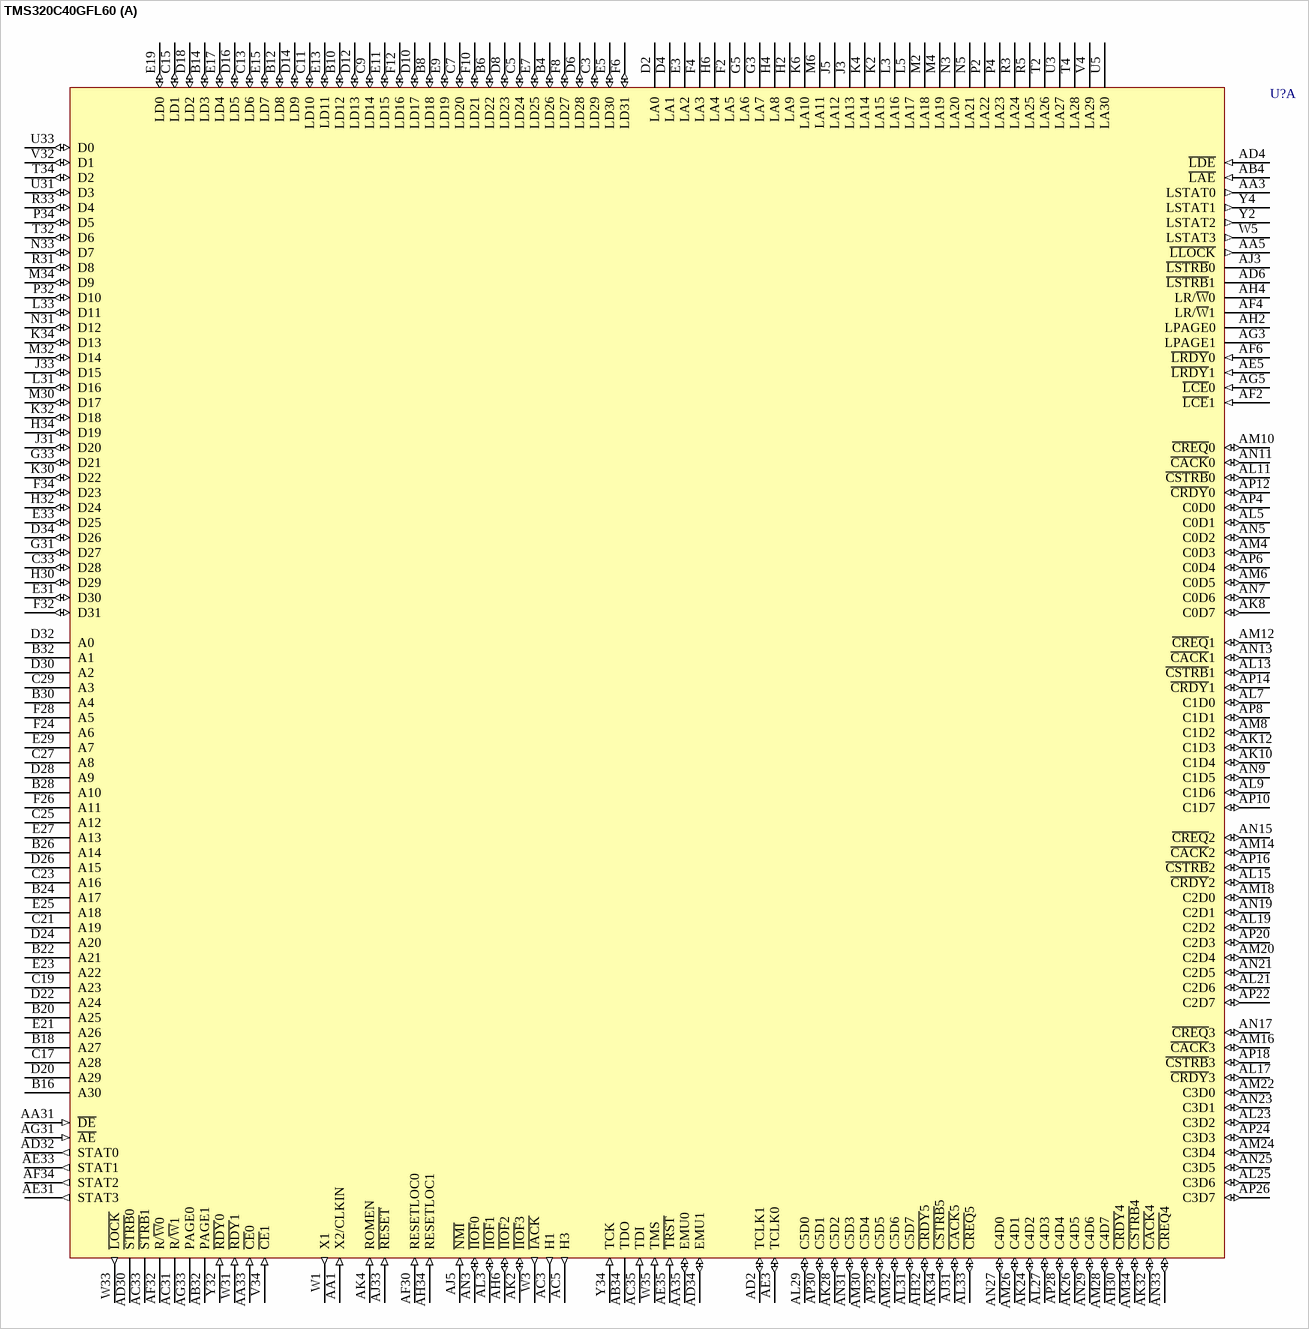
[diagram p105: symbol TMS320C40GFL60]

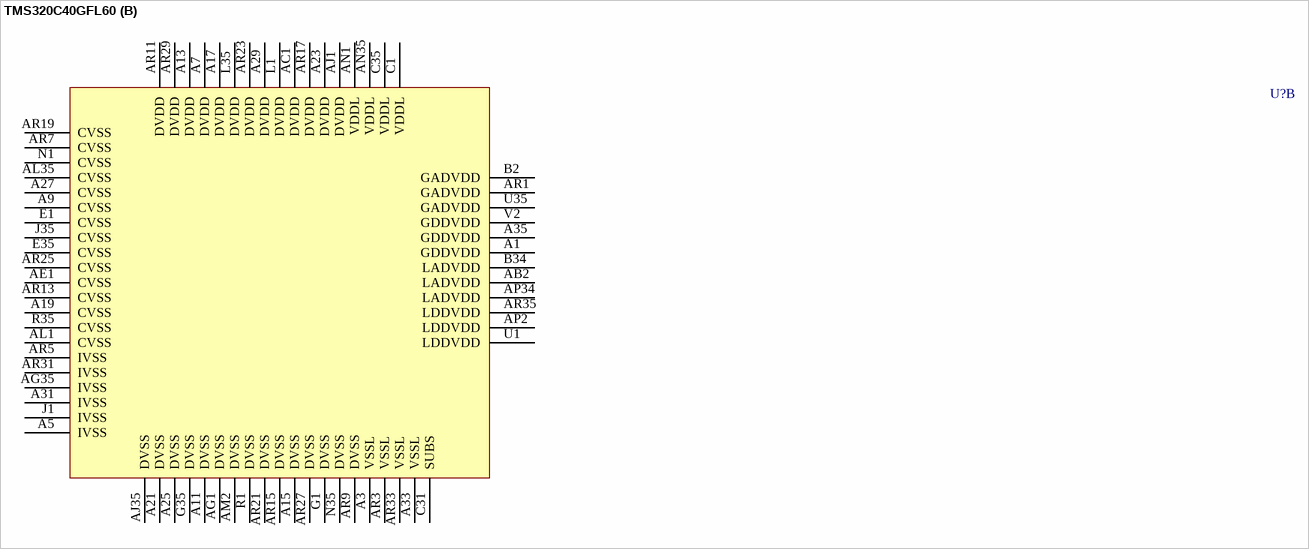
[diagram p106: symbol TMS320C40GFL60]

## TMS320C40GFL60
designator U?
Floating DSP; Published: 25-Jan-2001; LatestRevisionDate: 08-Jul-2005; LatestRevisionNote: Stylized 3D Model Added.; DatasheetVersion: Jan-1996; PackageVersion: Jun-1997; PackageReference: GF325; Publisher: Altium Limited; PackageDescription: 325-Pin Pin Grid Array 2.54 mm Pitch; ComponentLink1Description: Manufacturer Link; ComponentLink1URL: http://www.ti.com/; ComponentLink2Description: Datasheet; ComponentLink2URL: http://www-s.ti.com/sc/ds/tms320c40.pdf
footprint GF325 (PGA, 325-Leads, Body 47x47mm, Pitch 2.54mm)
3D model TMS320C40-GF325 (325-Pin Pin Grid Array 2.54 mm Pitch)
part A pins: AA1 X2/CLKIN (in), AA3 LSTAT0 (out), AA5 ~{LLOCK} (out), AA31 ~{DE} (in), AA33 ~{CE}0 (in), AA35 EMU0 (io), AB4 ~{LAE} (in), AB32 PAGE1 (hiz), AB34 TDO (hiz), AC3 H1 (out), AC5 H3 (out), AC31 R/~{W}1 (hiz), AC33 ~{STRB}1 (hiz), AC35 TDI (in), AD2 TCLK1 (io), AD4 ~{LDE} (in), AD6 ~{LSTRB}1 (hiz), AD30 ~{STRB}0 (hiz), AD32 STAT0 (out), AD34 EMU1 (io), AE3 TCLK0 (io), AE5 ~{LRDY}1 (in), AE31 STAT3 (out), AE33 STAT1 (out), AE35 ~{TRST} (in), AF2 ~{LCE}1 (in), AF4 LR/~{W}1 (hiz), AF6 ~{LRDY}0 (in), AF30 RESETLOC0 (in), AF32 R/~{W}0 (hiz), AF34 STAT2 (out), AG3 LPAGE1 (hiz), AG5 ~{LCE}0 (in), AG31 ~{AE} (in), AG33 PAGE0 (hiz), AH2 LPAGE0 (hiz), AH4 LR/~{W}0 (hiz), AH6 ~{IIOF}2 (io), AH30 ~{CRDY}4 (io), AH32 ~{CRDY}5 (io), AH34 RESETLOC1 (in), AJ3 ~{LSTRB}0 (hiz), AJ5 ~{NMI} (in), AJ31 ~{CACK}5 (io), AJ33 ~{RESET} (in), AK2 ~{IIOF}3 (io), AK4 ROMEN (in), AK8 C0D7 (io), AK10 C1D4 (io), AK12 C1D3 (io), AK24 C4D2 (io), AK26 C4D5 (io), AK28 C5D2 (io), AK32 ~{CACK}4 (io), AK34 ~{CSTRB}5 (io), AL3 ~{IIOF}1 (io), AL5 C0D1 (io), AL7 C1D0 (io), AL9 C1D6 (io), AL11 ~{CSTRB}0 (io), AL13 ~{CSTRB}1 (io), AL15 ~{CRDY}2 (io), AL17 ~{CRDY}3 (io), AL19 C2D2 (io), AL21 C2D6 (io), AL23 C3D2 (io), AL25 C3D6 (io), AL27 C4D3 (io), AL29 C5D0 (io), AL31 C5D7 (io), AL33 ~{CREQ}5 (io), AM4 C0D3 (io), AM6 C0D5 (io), AM8 C1D2 (io), AM10 ~{CREQ}0 (io), AM12 ~{CREQ}1 (io), AM14 ~{CACK}2 (io), AM16 ~{CACK}3 (io), AM18 C2D0 (io), AM20 C2D4 (io), AM22 C3D0 (io), AM24 C3D4 (io), AM26 C4D1 (io), AM28 C4D7 (io), AM30 C5D4 (io), AM32 C5D6 (io), AM34 ~{CSTRB}4 (io), AN3 ~{IIOF}0 (io), AN5 C0D2 (io), AN7 C0D6 (io), AN9 C1D5 (io), AN11 ~{CACK}0 (io), AN13 ~{CACK}1 (io), AN15 ~{CREQ}2 (io), AN17 ~{CREQ}3 (io), AN19 C2D1 (io), AN21 C2D5 (io), AN23 C3D1 (io), AN25 C3D5 (io), AN27 C4D0 (io), AN29 C4D6 (io), AN31 C5D3 (io), AN33 ~{CREQ}4 (io), AP4 C0D0 (io), AP6 C0D4 (io), AP8 C1D1 (io), AP10 C1D7 (io), AP12 ~{CRDY}0 (io), AP14 ~{CRDY}1 (io), AP16 ~{CSTRB}2 (io), AP18 ~{CSTRB}3 (io), AP20 C2D3 (io), AP22 C2D7 (io), AP24 C3D3 (io), AP26 C3D7 (io), AP28 C4D4 (io), AP30 C5D1 (io), AP32 C5D5 (io), B4 LD26 (io), B6 LD22 (io), B8 LD18 (io), B10 LD12 (io), B12 LD8 (io), B14 LD3 (io), B16 A30 (hiz), B18 A27 (hiz), B20 A25 (hiz), B22 A21 (hiz), B24 A17 (hiz), B26 A14 (hiz), B28 A10 (hiz), B30 A4 (hiz), B32 A1 (hiz), C3 LD29 (io), C5 LD24 (io), C7 LD20 (io), C9 LD14 (io), C11 LD10 (io), C13 LD6 (io), C15 LD1 (io), C17 A28 (hiz), C19 A23 (hiz), C21 A19 (hiz), C23 A16 (hiz), C25 A12 (hiz), C27 A8 (hiz), C29 A3 (hiz), C33 D28 (io), D2 LA0 (hiz), D4 LA1 (hiz), D6 LD28 (io), D8 LD23 (io), D10 LD17 (io), D12 LD13 (io), D14 LD9 (io), D16 LD5 (io), D18 LD2 (io), D20 A29 (hiz), D22 A24 (hiz), D24 A20 (hiz), D26 A15 (hiz), D28 A9 (hiz), D30 A2 (hiz), D32 A0 (hiz), D34 D26 (io), E3 LA2 (hiz), E5 LD30 (io), E7 LD25 (io), E9 LD19 (io), E11 LD15 (io), E13 LD11 (io), E15 LD7 (io), E17 LD4 (io), E19 LD0 (io), E21 A26 (hiz), E23 A22 (hiz), E25 A18 (hiz), E27 A13 (hiz), E29 A7 (hiz), E31 D30 (io), E33 D25 (io), F2 LA5 (hiz), F4 LA3 (hiz), F6 LD31 (io), F8 LD27 (io), F10 LD21 (io), F12 LD16 (io), F24 A6 (hiz), F26 A11 (hiz), F28 A5 (hiz), F32 D31 (io), F34 D23 (io), G3 LA7 (hiz), G5 LA6 (hiz), G31 D27 (io), G33 D21 (io), H2 LA9 (hiz), H4 LA8 (hiz), H6 LA4 (hiz), H30 D29 (io), H32 D24 (io), H34 D19 (io), J3 LA13 (hiz), J5 LA12 (hiz), J31 D20 (io), J33 D15 (io), K2 LA15 (hiz), K4 LA14 (hiz), K6 LA10 (hiz), K30 D22 (io), K32 D18 (io), K34 D13 (io), L3 LA16 (hiz), L5 LA17 (hiz), L31 D16 (io), L33 D11 (io), M2 LA18 (hiz), M4 LA19 (hiz), M6 LA11 (hiz), M30 D17 (io), M32 D14 (io), M34 D9 (io), N3 LA20 (hiz), N5 LA21 (hiz), N31 D12 (io), N33 D7 (io), P2 LA22 (hiz), P4 LA23 (hiz), P32 D10 (io), P34 D5 (io), R3 LA24 (hiz), R5 LA25 (hiz), R31 D8 (io), R33 D4 (io), T2 LA26 (hiz), T4 LA28 (hiz), T32 D6 (io), T34 D2 (io), U3 LA27 (hiz), U5 LA30 (hiz), U31 D3 (io), U33 D0 (io), V4 LA29 (hiz), V32 D1 (io), V34 ~{CE}1 (in), W1 X1 (out), W3 ~{IACK} (out), W5 LSTAT3 (out), W31 ~{RDY}1 (in), W33 ~{LOCK} (out), W35 TMS (in), Y2 LSTAT2 (out), Y4 LSTAT1 (out), Y32 ~{RDY}0 (in), Y34 TCK (in)
part B pins: A1 GDDVDD (power), A3 VSSL (power), A5 IVSS (power), A7 DVDD (power), A9 CVSS (power), A11 DVSS (power), A13 DVDD (power), A15 DVSS (power), A17 DVDD (power), A19 CVSS (power), A21 DVSS (power), A23 DVDD (power), A25 DVSS (power), A27 CVSS (power), A29 DVDD (power), A31 IVSS (power), A33 VSSL (power), A35 GDDVDD (power), AB2 LADVDD (power), AC1 DVDD (power), AE1 CVSS (power), AG1 DVSS (power), AG35 IVSS (power), AJ1 DVDD (power), AJ35 DVSS (power), AL1 CVSS (power), AL35 CVSS (power), AM2 DVSS (power), AN1 VDDL (power), AN35 VDDL (power), AP2 LDDVDD (power), AP34 LADVDD (power), AR1 GADVDD (power), AR3 VSSL (power), AR5 IVSS (power), AR7 CVSS (power), AR9 DVSS (power), AR11 DVDD (power), AR13 CVSS (power), AR15 DVSS (power), AR17 DVDD (power), AR19 CVSS (power), AR21 DVSS (power), AR23 DVDD (power), AR25 CVSS (power), AR27 DVSS (power), AR29 DVDD (power), AR31 IVSS (power), AR33 VSSL (power), AR35 LDDVDD (power), B2 GADVDD (power), B34 LADVDD (power), C1 VDDL (power), C31 SUBS (power), C35 VDDL (power), E1 CVSS (power), E35 CVSS (power), G1 DVSS (power), G35 DVSS (power), J1 IVSS (power), J35 CVSS (power), L1 DVDD (power), L35 DVDD (power), N1 CVSS (power), N35 DVSS (power), R1 DVSS (power), R35 CVSS (power), U1 LDDVDD (power), U35 GADVDD (power), V2 GDDVDD (power)

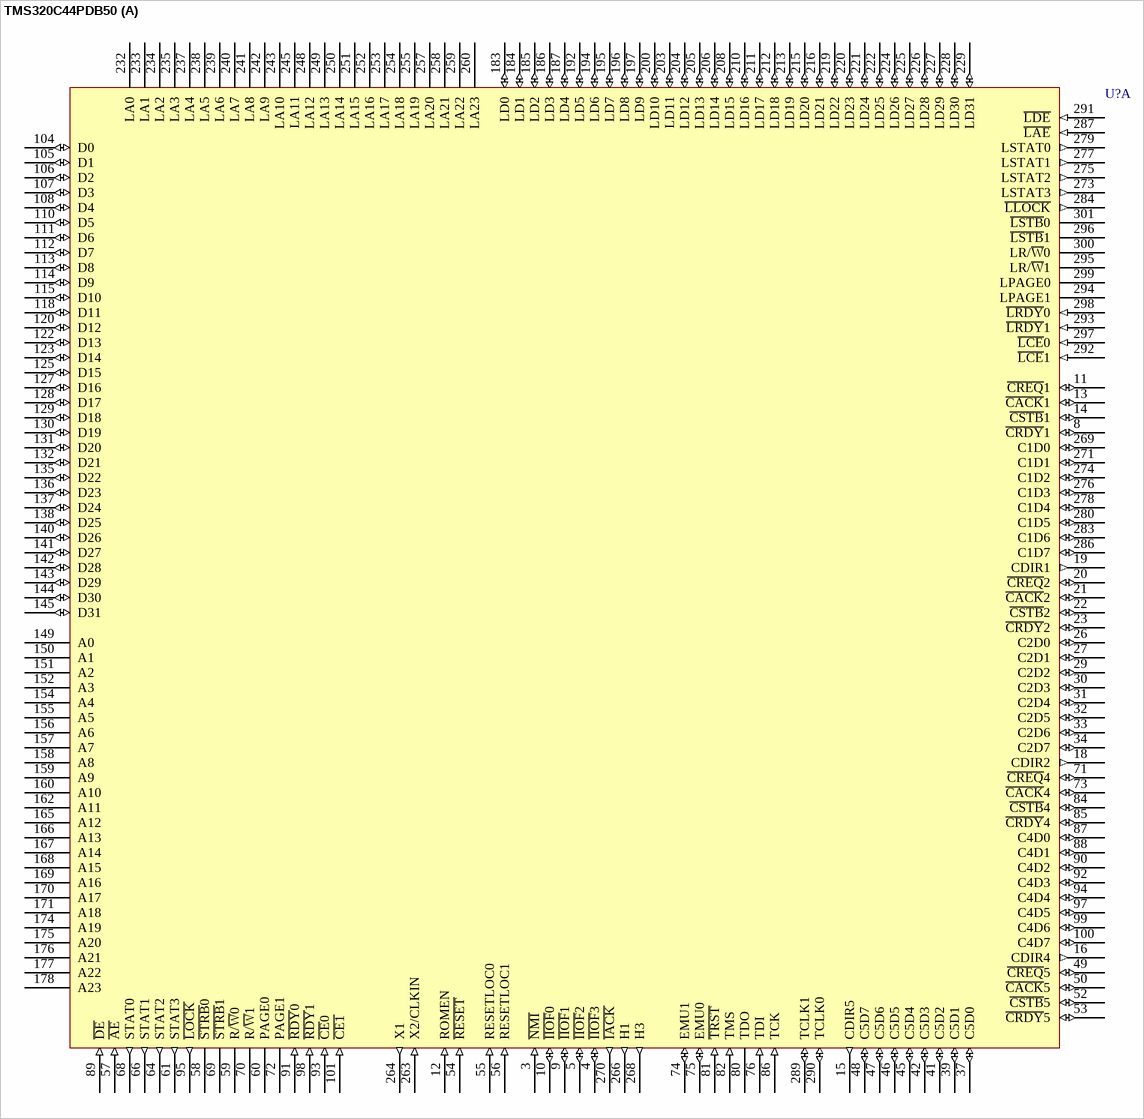
[diagram p107: symbol TMS320C44PDB50]

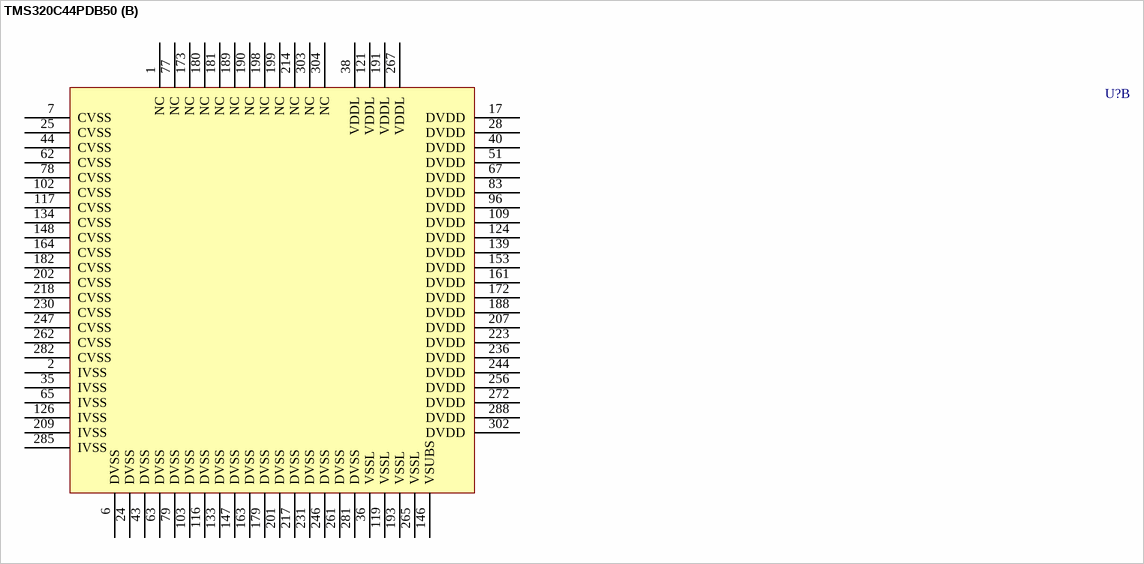
[diagram p108: symbol TMS320C44PDB50]

## TMS320C44PDB50
designator U?
Floating DSP; Published: 25-Jan-2001; LatestRevisionDate: 13-Apr-2006; LatestRevisionNote: IPC-7351 Footprint Added.; DatasheetVersion: Dec-1995; PackageVersion: May-1999; PackageReference: PDB304; Publisher: Altium Limited; PackageDescription: 304-Pin Shrink Quad Flat Pack 0.5 mm Pitch; ComponentLink1Description: Manufacturer Link; ComponentLink1URL: http://www.ti.com/; ComponentLink2Description: Datasheet; ComponentLink2URL: http://www-s.ti.com/sc/ds/tms320c44.pdf
footprint PDB304_N (Shrink QFP, 304-Leads, Body 40x40mm, Pitch 0.5mm, IPC Medium Density)
footprint PDB304_L (Shrink QFP, 304-Leads, Body 40x40mm, Pitch 0.5mm, IPC High Density)
footprint PDB304_M (Shrink QFP, 304-Leads, Body 40x40mm, Pitch 0.5mm, IPC Low Density)
3D model TMS320C44-PDB304 (304-Pin Shrink Quad Flat Pack 0.5 mm Pitch)
part A pins: 3 ~{NMI} (in), 4 ~{IIOF}3 (io), 5 ~{IIOF}2 (io), 8 ~{CRDY}1 (io), 9 ~{IIOF}1 (io), 10 ~{IIOF}0 (io), 11 ~{CREQ}1 (io), 12 ROMEN (in), 13 ~{CACK}1 (io), 14 ~{CSTB}1 (io), 15 CDIR5 (out), 16 CDIR4 (out), 18 CDIR2 (out), 19 CDIR1 (out), 20 ~{CREQ}2 (io), 21 ~{CACK}2 (io), 22 ~{CSTB}2 (io), 23 ~{CRDY}2 (io), 26 C2D0 (io), 27 C2D1 (io), 29 C2D2 (io), 30 C2D3 (io), 31 C2D4 (io), 32 C2D5 (io), 33 C2D6 (io), 34 C2D7 (io), 37 C5D0 (io), 39 C5D1 (io), 41 C5D2 (io), 42 C5D3 (io), 45 C5D4 (io), 46 C5D5 (io), 47 C5D6 (io), 48 C5D7 (io), 49 ~{CREQ}5 (io), 50 ~{CACK}5 (io), 52 ~{CSTB}5 (io), 53 ~{CRDY}5 (io), 54 ~{RESET} (in), 55 RESETLOC0 (in), 56 RESETLOC1 (in), 57 ~{AE} (in), 58 ~{STRB}0 (hiz), 59 R/~{W}0 (hiz), 60 PAGE0 (hiz), 61 STAT3 (out), 64 STAT2 (out), 66 STAT1 (out), 68 STAT0 (out), 69 ~{STRB}1 (hiz), 70 R/~{W}1 (hiz), 71 ~{CREQ}4 (io), 72 PAGE1 (hiz), 73 ~{CACK}4 (io), 74 EMU1 (io), 75 EMU0 (io), 76 TDI (in), 80 TDO (hiz), 81 ~{TRST} (in), 82 TMS (in), 84 ~{CSTB}4 (io), 85 ~{CRDY}4 (io), 86 TCK (in), 87 C4D0 (io), 88 C4D1 (io), 89 ~{DE} (in), 90 C4D2 (io), 91 ~{RDY}0 (in), 92 C4D3 (io), 93 ~{CE}0 (in), 94 C4D4 (io), 95 ~{LOCK} (out), 97 C4D5 (io), 98 ~{RDY}1 (in), 99 C4D6 (io), 100 C4D7 (io), 101 ~{CE1} (in), 104 D0 (io), 105 D1 (io), 106 D2 (io), 107 D3 (io), 108 D4 (io), 110 D5 (io), 111 D6 (io), 112 D7 (io), 113 D8 (io), 114 D9 (io), 115 D10 (io), 118 D11 (io), 120 D12 (io), 122 D13 (io), 123 D14 (io), 125 D15 (io), 127 D16 (io), 128 D17 (io), 129 D18 (io), 130 D19 (io), 131 D20 (io), 132 D21 (io), 135 D22 (io), 136 D23 (io), 137 D24 (io), 138 D25 (io), 140 D26 (io), 141 D27 (io), 142 D28 (io), 143 D29 (io), 144 D30 (io), 145 D31 (io), 149 A0 (hiz), 150 A1 (hiz), 151 A2 (hiz), 152 A3 (hiz), 154 A4 (hiz), 155 A5 (hiz), 156 A6 (hiz), 157 A7 (hiz), 158 A8 (hiz), 159 A9 (hiz), 160 A10 (hiz), 162 A11 (hiz), 165 A12 (hiz), 166 A13 (hiz), 167 A14 (hiz), 168 A15 (hiz), 169 A16 (hiz), 170 A17 (hiz), 171 A18 (hiz), 174 A19 (hiz), 175 A20 (hiz), 176 A21 (hiz), 177 A22 (hiz), 178 A23 (hiz), 183 LD0 (io), 184 LD1 (io), 185 LD2 (io), 186 LD3 (io), 187 LD4 (io), 192 LD5 (io), 194 LD6 (io), 195 LD7 (io), 196 LD8 (io), 197 LD9 (io), 200 LD10 (io), 203 LD11 (io), 204 LD12 (io), 205 LD13 (io), 206 LD14 (io), 208 LD15 (io), 210 LD16 (io), 211 LD17 (io), 212 LD18 (io), 213 LD19 (io), 215 LD20 (io), 216 LD21 (io), 219 LD22 (io), 220 LD23 (io), 221 LD24 (io), 222 LD25 (io), 224 LD26 (io), 225 LD27 (io), 226 LD28 (io), 227 LD29 (io), 228 LD30 (io), 229 LD31 (io), 232 LA0 (hiz), 233 LA1 (hiz), 234 LA2 (hiz), 235 LA3 (hiz), 237 LA4 (hiz), 238 LA5 (hiz), 239 LA6 (hiz), 240 LA7 (hiz), 241 LA8 (hiz), 242 LA9 (hiz), 243 LA10 (hiz), 245 LA11 (hiz), 248 LA12 (hiz), 249 LA13 (hiz), 250 LA14 (hiz), 251 LA15 (hiz), 252 LA16 (hiz), 253 LA17 (hiz), 254 LA18 (hiz), 255 LA19 (hiz), 257 LA20 (hiz), 258 LA21 (hiz), 259 LA22 (hiz), 260 LA23 (hiz), 263 X2/CLKIN (in), 264 X1 (out), 266 H1 (out), 268 H3 (out), 269 C1D0 (io), 270 ~{IACK} (out), 271 C1D1 (io), 273 LSTAT3 (out), 274 C1D2 (io), 275 LSTAT2 (out), 276 C1D3 (io), 277 LSTAT1 (out), 278 C1D4 (io), 279 LSTAT0 (out), 280 C1D5 (io), 283 C1D6 (io), 284 ~{LLOCK} (out), 286 C1D7 (io), 287 ~{LAE} (in), 289 TCLK1 (io), 290 TCLK0 (io), 291 ~{LDE} (in), 292 ~{LCE}1 (in), 293 ~{LRDY}1 (in), 294 LPAGE1 (hiz), 295 LR/~{W}1 (hiz), 296 ~{LSTB}1 (hiz), 297 ~{LCE}0 (in), 298 ~{LRDY}0 (in), 299 LPAGE0 (hiz), 300 LR/~{W}0 (hiz), 301 ~{LSTB}0 (hiz)
part B pins: 1 NC, 2 IVSS (power), 6 DVSS (power), 7 CVSS (power), 17 DVDD (power), 24 DVSS (power), 25 CVSS (power), 28 DVDD (power), 35 IVSS (power), 36 VSSL (power), 38 VDDL (power), 40 DVDD (power), 43 DVSS (power), 44 CVSS (power), 51 DVDD (power), 62 CVSS (power), 63 DVSS (power), 65 IVSS (power), 67 DVDD (power), 77 NC, 78 CVSS (power), 79 DVSS (power), 83 DVDD (power), 96 DVDD (power), 102 CVSS (power), 103 DVSS (power), 109 DVDD (power), 116 DVSS (power), 117 CVSS (power), 119 VSSL (power), 121 VDDL (power), 124 DVDD (power), 126 IVSS (power), 133 DVSS (power), 134 CVSS (power), 139 DVDD (power), 146 VSUBS (power), 147 DVSS (power), 148 CVSS (power), 153 DVDD (power), 161 DVDD (power), 163 DVSS (power), 164 CVSS (power), 172 DVDD (power), 173 NC, 179 DVSS (power), 180 NC, 181 NC, 182 CVSS (power), 188 DVDD (power), 189 NC, 190 NC, 191 VDDL (power), 193 VSSL (power), 198 NC, 199 NC, 201 DVSS (power), 202 CVSS (power), 207 DVDD (power), 209 IVSS (power), 214 NC, 217 DVSS (power), 218 CVSS (power), 223 DVDD (power), 230 CVSS (power), 231 DVSS (power), 236 DVDD (power), 244 DVDD (power), 246 DVSS (power), 247 CVSS (power), 256 DVDD (power), 261 DVSS (power), 262 CVSS (power), 265 VSSL (power), 267 VDDL (power), 272 DVDD (power), 281 DVSS (power), 282 CVSS (power), 285 IVSS (power), 288 DVDD (power), 302 DVDD (power), 303 NC, 304 NC

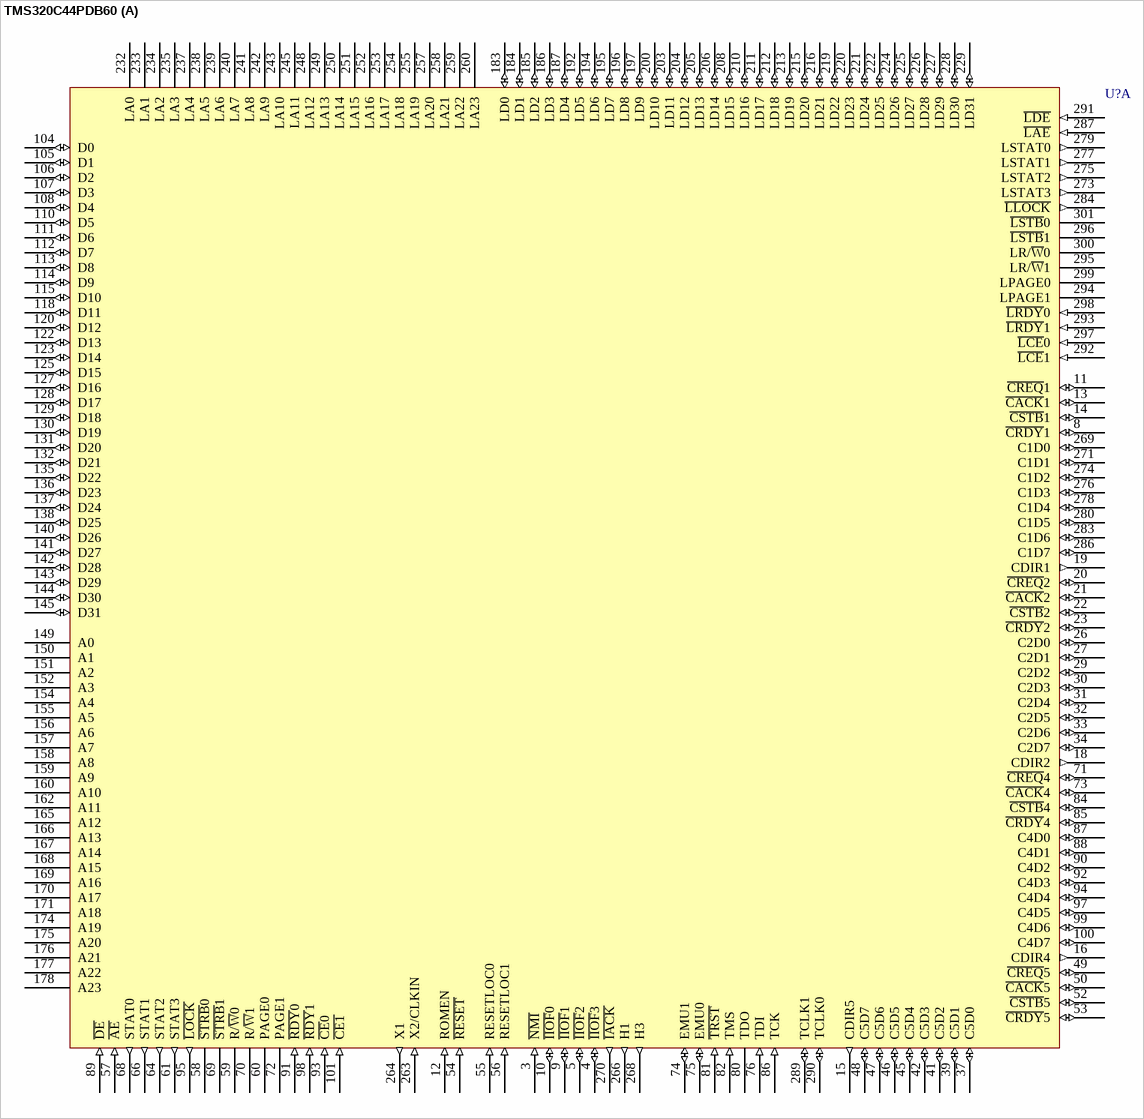
[diagram p109: symbol TMS320C44PDB60]

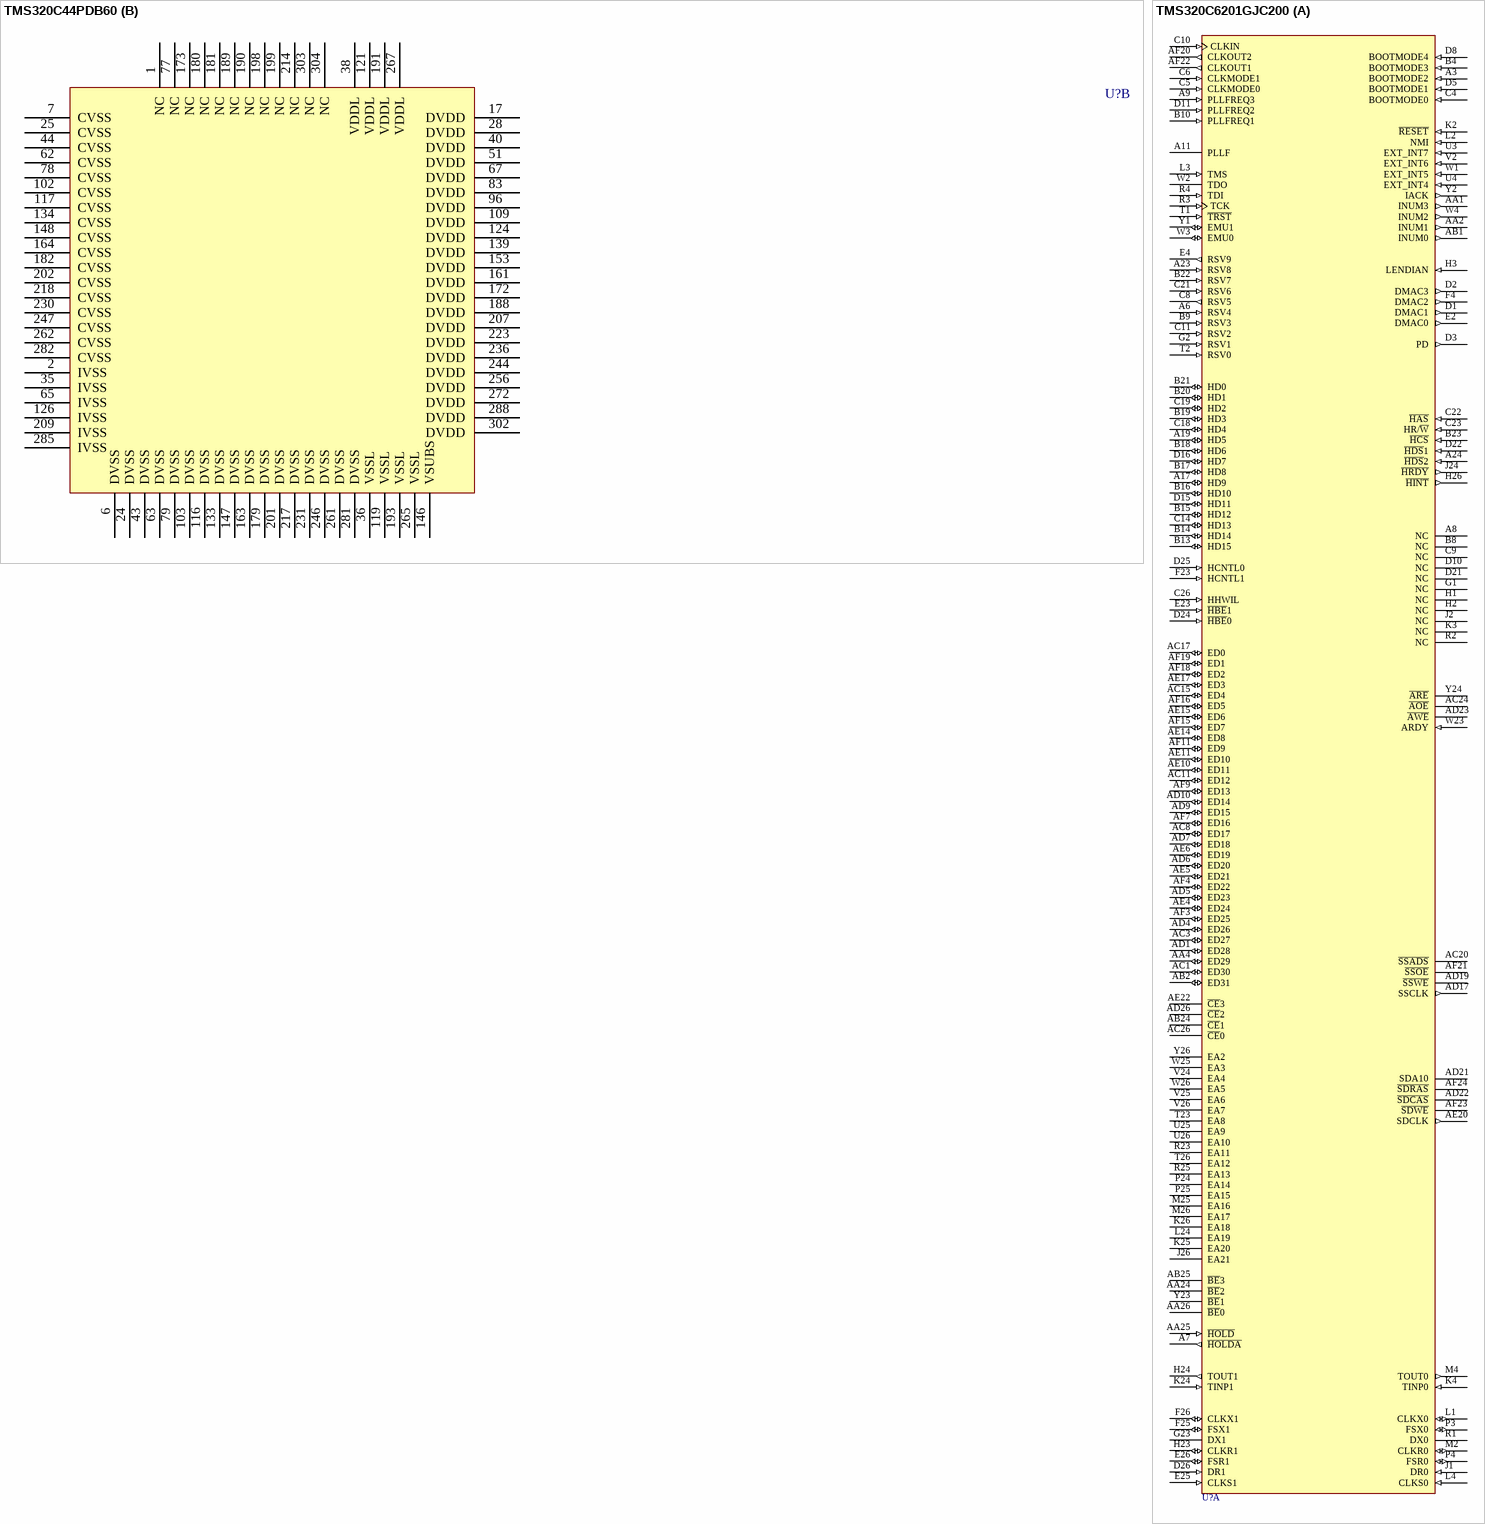
[diagram p110: symbols TMS320C44PDB60 to TMS320C6201GJC200]